# Altium integrated library HARTING DIN 41612 Type C.IntLib: 90 symbols (part 1 of 3)
Pins are listed as number, name and electrical type; pins without a type are passive.

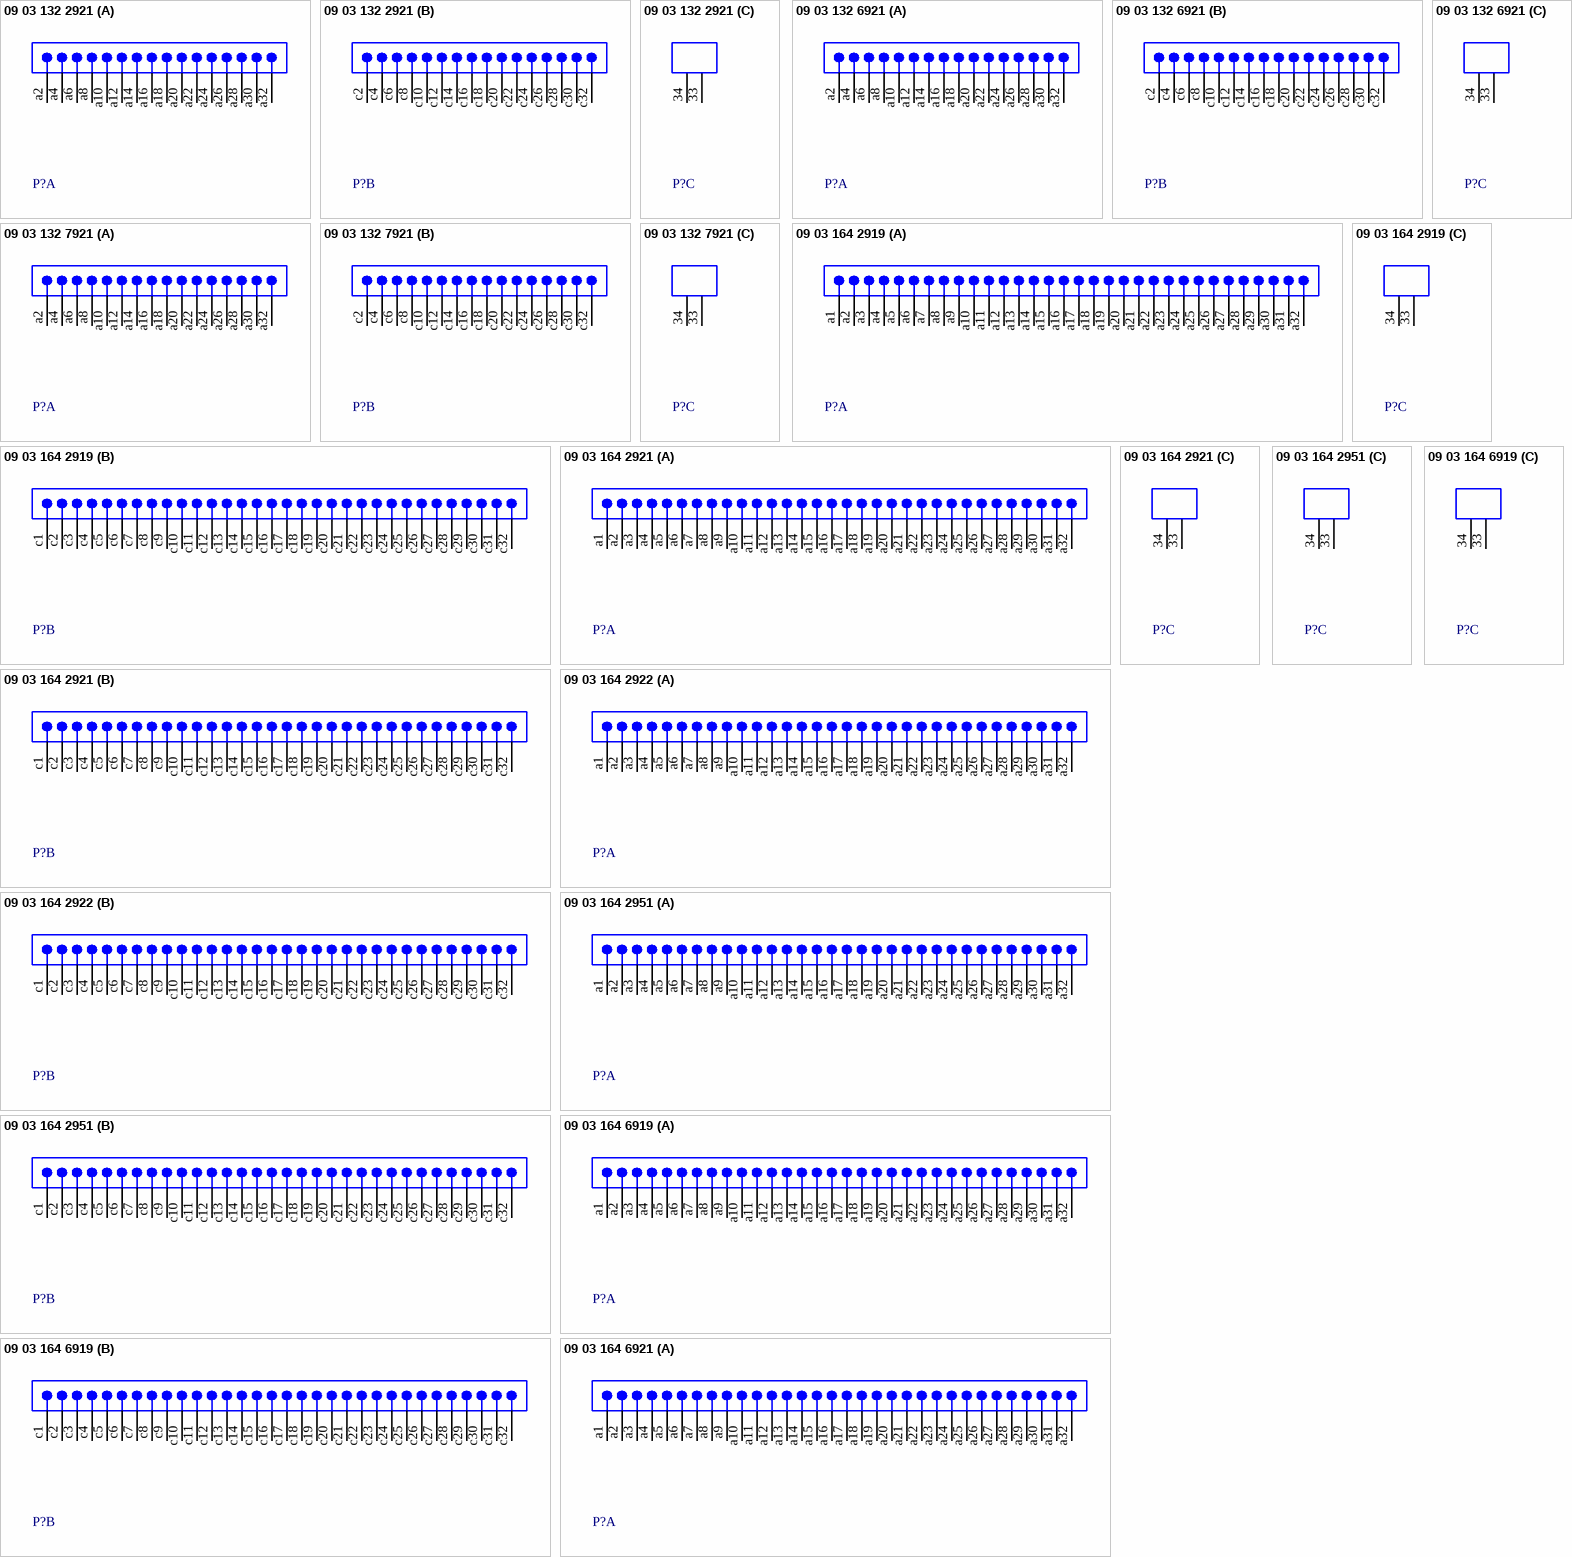
[diagram p0: symbols 09 03 132 2921 to 09 03 164 6921]

## 09 03 132 2921
designator P?
Eurocard DIN 41612, Type C, 32 Position, Rows a+c, Performance level 1, Male, Lead 3.0 mm, Pitch 2.54 mm; DrillSize: Corresponds to nominal value.; Published: 6-Oct-2005; DatasheetDocument: 02-Jun-2003; PackageDocument: 23-May-2000; PackageReference: 0903132x921; Publisher: Altium Limited; ComponentLink1Description: Manufacturer Link; ComponentLink1URL: http://www.harting.com/; ComponentLink2Description: Packaging Specification; ComponentLink2URL: http://www.harkis.harting.com/_gds/pdf/TB_0903132x921_BL01_R27461.pdf
footprint 0903132x921 (Connector; DIN 41612, Type C, Thru-Hole; Rows a+c, 32 Position; Right Angle)
signal-integrity model DIN 41612
part A pins: a2, a4, a6, a8, a10, a12, a14, a16, a18, a20, a22, a24, a26, a28, a30, a32
part B pins: c2, c4, c6, c8, c10, c12, c14, c16, c18, c20, c22, c24, c26, c28, c30, c32
part C pins: 33 MH1 "Mounting Fixture", 34 MH2 "Mounting Fixture"

## 09 03 132 6921
designator P?
Eurocard DIN 41612, Type C, 32 Position, Rows a+c, Performance level 2, Male, Lead 3.0 mm, Pitch 2.54 mm; DrillSize: Corresponds to nominal value.; Published: 6-Oct-2005; DatasheetDocument: 02-Jun-2003; PackageDocument: 23-May-2000; PackageReference: 0903132x921; Publisher: Altium Limited; ComponentLink1Description: Manufacturer Link; ComponentLink1URL: http://www.harting.com/; ComponentLink2Description: Packaging Specification; ComponentLink2URL: http://www.harkis.harting.com/_gds/pdf/TB_0903132x921_BL01_R27461.pdf
footprint 0903132x921 (Connector; DIN 41612, Type C, Thru-Hole; Rows a+c, 32 Position; Right Angle)
signal-integrity model DIN 41612
part A pins: a2, a4, a6, a8, a10, a12, a14, a16, a18, a20, a22, a24, a26, a28, a30, a32
part B pins: c2, c4, c6, c8, c10, c12, c14, c16, c18, c20, c22, c24, c26, c28, c30, c32
part C pins: 33 MH1 "Mounting Fixture", 34 MH2 "Mounting Fixture"

## 09 03 132 7921
designator P?
Eurocard DIN 41612, Type C, 32 Position, Rows a+c, Performance level 3, Male, Lead 3.0 mm, Pitch 2.54 mm; DrillSize: Corresponds to nominal value.; Published: 6-Oct-2005; DatasheetDocument: 02-Jun-2003; PackageDocument: 23-May-2000; PackageReference: 0903132x921; Publisher: Altium Limited; ComponentLink1Description: Manufacturer Link; ComponentLink1URL: http://www.harting.com/; ComponentLink2Description: Packaging Specification; ComponentLink2URL: http://www.harkis.harting.com/_gds/pdf/TB_0903132x921_BL01_R27461.pdf
footprint 0903132x921 (Connector; DIN 41612, Type C, Thru-Hole; Rows a+c, 32 Position; Right Angle)
signal-integrity model DIN 41612
part A pins: a2, a4, a6, a8, a10, a12, a14, a16, a18, a20, a22, a24, a26, a28, a30, a32
part B pins: c2, c4, c6, c8, c10, c12, c14, c16, c18, c20, c22, c24, c26, c28, c30, c32
part C pins: 33 MH1 "Mounting Fixture", 34 MH2 "Mounting Fixture"

## 09 03 164 2919
designator P?
Eurocard DIN 41612, Type C, 64 Position, Rows a+c, Performance level 1, Male, Lead 3.0 mm, Pitch 2.54 mm; DrillSize: Corresponds to nominal value.; Published: 6-Oct-2005; DatasheetDocument: 03-Jun-2003; PackageReference: 0903164x919; Publisher: Altium Limited; ComponentLink1Description: Manufacturer Link; ComponentLink1URL: http://www.harting.com/
footprint 0903164x919 (Connector; DIN 41612, Type C, Thru-Hole; Rows a+c, 64 Position; Right Angle)
signal-integrity model DIN 41612
part A pins: a1, a2, a3, a4, a5, a6, a7, a8, a9, a10, a11, a12, a13, a14, a15, a16, a17, a18, a19, a20, a21, a22, a23, a24, a25, a26, a27, a28, a29, a30, a31, a32
part B pins: c1, c2, c3, c4, c5, c6, c7, c8, c9, c10, c11, c12, c13, c14, c15, c16, c17, c18, c19, c20, c21, c22, c23, c24, c25, c26, c27, c28, c29, c30, c31, c32
part C pins: 33 MH1 "Mounting Fixture", 34 MH2 "Mounting Fixture"

## 09 03 164 2921
designator P?
Eurocard DIN 41612, Type C, 64 Position, Rows a+c, Performance level 1, Male, Lead 3.0 mm, Pitch 2.54 mm; DrillSize: Corresponds to nominal value.; Published: 6-Oct-2005; DatasheetDocument: 02-Jun-2003; PackageDocument: 15-May-2000; PackageReference: 0903164x921; Publisher: Altium Limited; ComponentLink1Description: Manufacturer Link; ComponentLink1URL: http://www.harting.com/; ComponentLink2Description: Packaging Specification; ComponentLink2URL: http://www.harkis.harting.com/_gds/pdf/TB_0903164x921_BL01_R27477.pdf
footprint 0903164x921 (Connector; DIN 41612, Type C, Thru-Hole; Rows a+c, 64 Position; Right Angle)
signal-integrity model DIN 41612
part A pins: a1, a2, a3, a4, a5, a6, a7, a8, a9, a10, a11, a12, a13, a14, a15, a16, a17, a18, a19, a20, a21, a22, a23, a24, a25, a26, a27, a28, a29, a30, a31, a32
part B pins: c1, c2, c3, c4, c5, c6, c7, c8, c9, c10, c11, c12, c13, c14, c15, c16, c17, c18, c19, c20, c21, c22, c23, c24, c25, c26, c27, c28, c29, c30, c31, c32
part C pins: 33 MH1 "Mounting Fixture", 34 MH2 "Mounting Fixture"

## 09 03 164 2922
designator P?
Eurocard DIN 41612, Type C, 64 Position, Rows a+c, Performance level 1, Male, Lead 3.0 mm, Pitch 2.54 mm; DrillSize: Corresponds to nominal value.; Published: 6-Oct-2005; DatasheetDocument: 02-Jun-2003; PackageDocument: 03-Jul-2000; PackageReference: 0903164x922; Publisher: Altium Limited; ComponentLink1Description: Manufacturer Link; ComponentLink1URL: http://www.harting.com/; ComponentLink2Description: Packaging Specification; ComponentLink2URL: http://www.harkis.harting.com/_gds/pdf/TB_0903164x922_BL01_R27486.pdf
footprint 0903164x922 (Connector; DIN 41612, Type C, Thru-Hole; Rows a+c, 64 Position; Vertical; No Mounting Fixture)
signal-integrity model DIN 41612
part A pins: a1, a2, a3, a4, a5, a6, a7, a8, a9, a10, a11, a12, a13, a14, a15, a16, a17, a18, a19, a20, a21, a22, a23, a24, a25, a26, a27, a28, a29, a30, a31, a32
part B pins: c1, c2, c3, c4, c5, c6, c7, c8, c9, c10, c11, c12, c13, c14, c15, c16, c17, c18, c19, c20, c21, c22, c23, c24, c25, c26, c27, c28, c29, c30, c31, c32

## 09 03 164 2951
designator P?
Eurocard DIN 41612, Type C, 62+2 Position, Rows a+c, Performance level 1, Male, Lead 3.0 mm, Pitch 2.54 mm; Note: Two leading contacts at positions a1 & a32.; DrillSize: Corresponds to nominal value.; Published: 6-Oct-2005; DatasheetDocument: 02-Jun-2003; PackageDocument: 18-May-2000; PackageReference: 0903164x951; Publisher: Altium Limited; ComponentLink1Description: Manufacturer Link; ComponentLink1URL: http://www.harting.com/; ComponentLink2Description: Packaging Specification; ComponentLink2URL: http://www.harkis.harting.com/_gds/pdf/TB_0903164x951_BL01_R27477.pdf
footprint 0903164x951 (Connector; DIN 41612, Type C, Thru-Hole; Rows a+c, 64 Position; Right Angle)
signal-integrity model DIN 41612
part A pins: a1, a2, a3, a4, a5, a6, a7, a8, a9, a10, a11, a12, a13, a14, a15, a16, a17, a18, a19, a20, a21, a22, a23, a24, a25, a26, a27, a28, a29, a30, a31, a32
part B pins: c1, c2, c3, c4, c5, c6, c7, c8, c9, c10, c11, c12, c13, c14, c15, c16, c17, c18, c19, c20, c21, c22, c23, c24, c25, c26, c27, c28, c29, c30, c31, c32
part C pins: 33 MH1 "Mounting Fixture", 34 MH2 "Mounting Fixture"

## 09 03 164 6919
designator P?
Eurocard DIN 41612, Type C, 64 Position, Rows a+c, Performance level 2, Male, Lead 3.0 mm, Pitch 2.54 mm; DrillSize: Corresponds to nominal value.; Published: 6-Oct-2005; DatasheetDocument: 03-Jun-2003; PackageReference: 0903164x919; Publisher: Altium Limited; ComponentLink1Description: Manufacturer Link; ComponentLink1URL: http://www.harting.com/
footprint 0903164x919 (Connector; DIN 41612, Type C, Thru-Hole; Rows a+c, 64 Position; Right Angle)
signal-integrity model DIN 41612
part A pins: a1, a2, a3, a4, a5, a6, a7, a8, a9, a10, a11, a12, a13, a14, a15, a16, a17, a18, a19, a20, a21, a22, a23, a24, a25, a26, a27, a28, a29, a30, a31, a32
part B pins: c1, c2, c3, c4, c5, c6, c7, c8, c9, c10, c11, c12, c13, c14, c15, c16, c17, c18, c19, c20, c21, c22, c23, c24, c25, c26, c27, c28, c29, c30, c31, c32
part C pins: 33 MH1 "Mounting Fixture", 34 MH2 "Mounting Fixture"

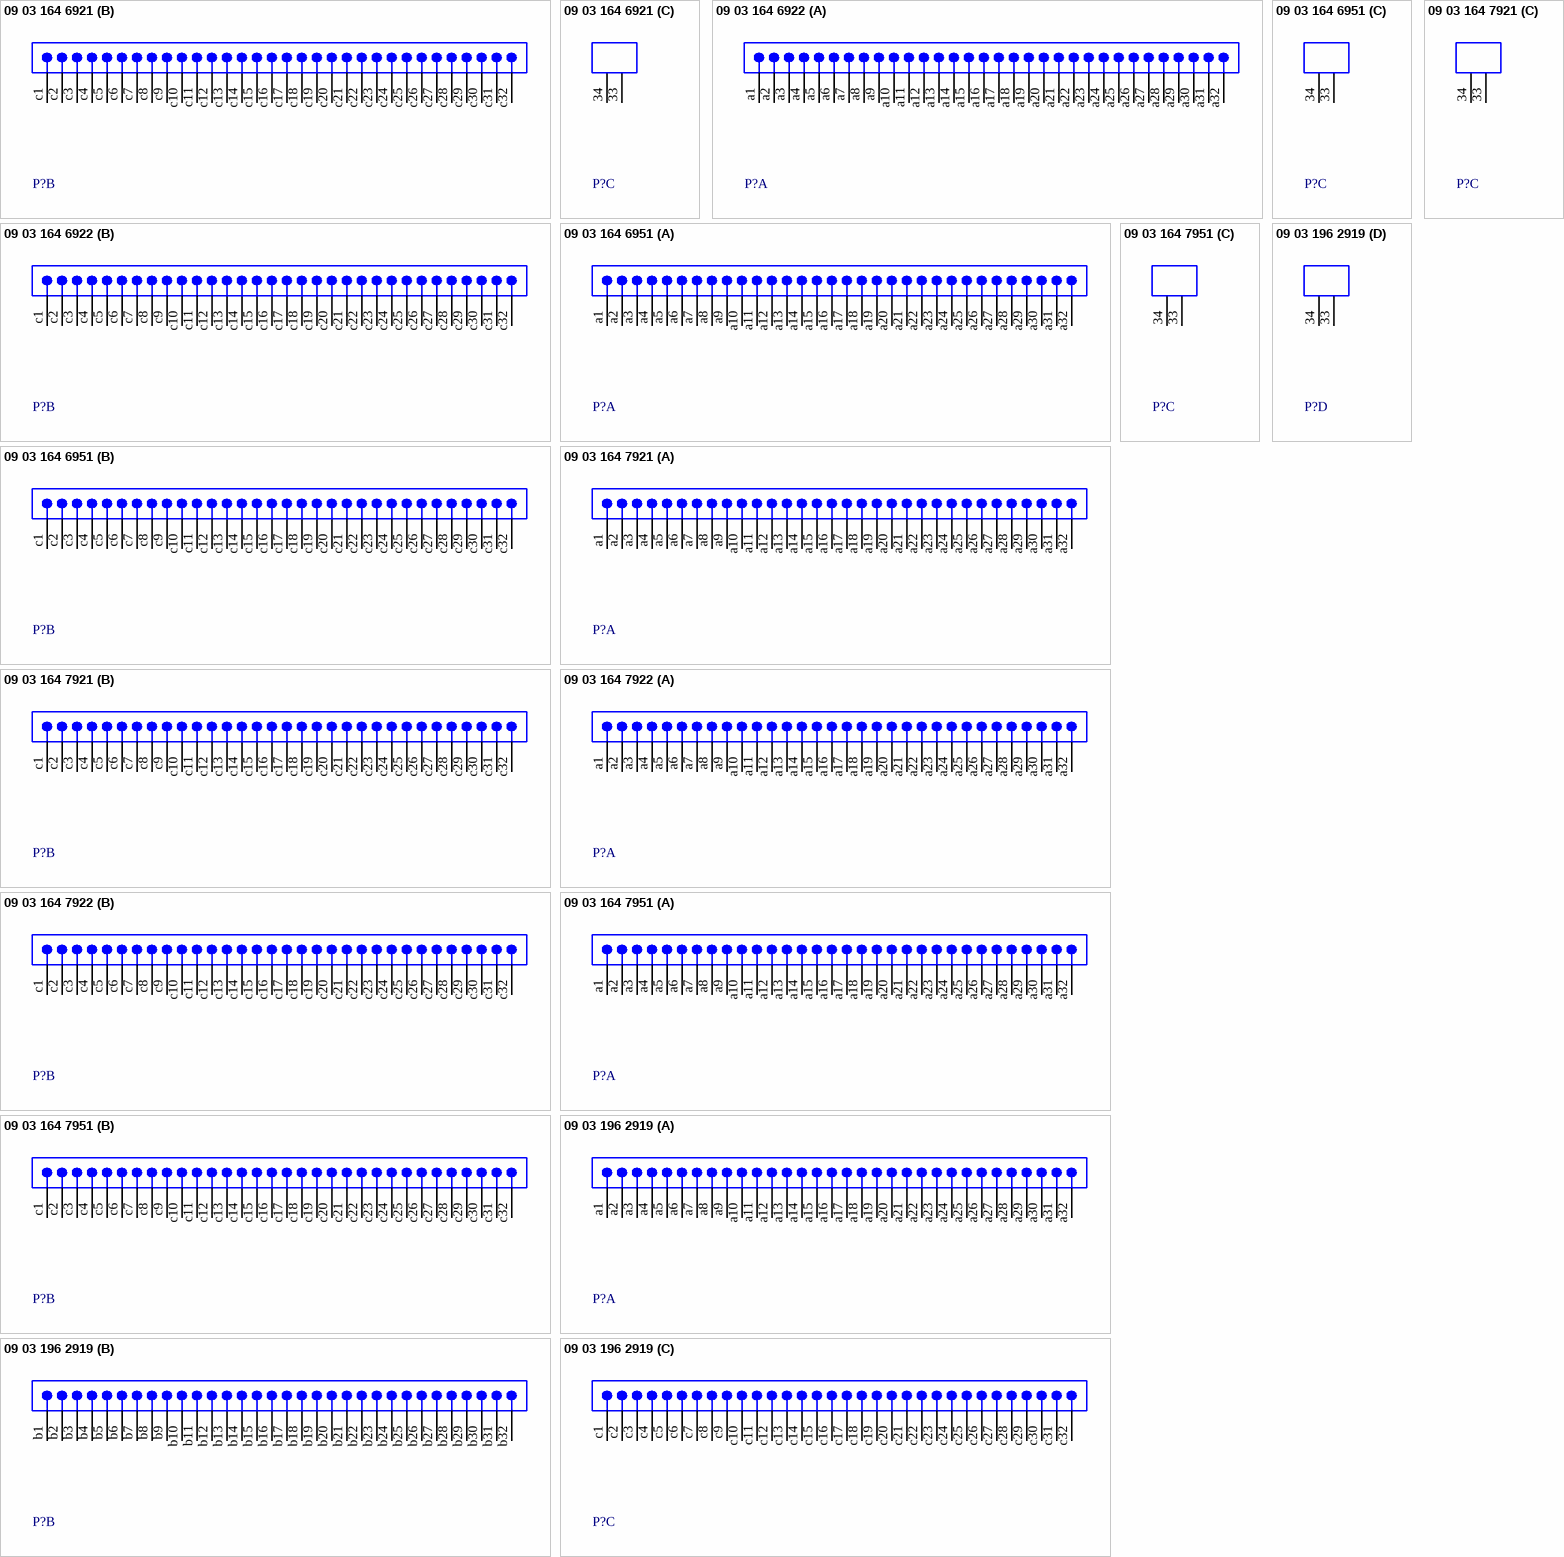
[diagram p1: symbols 09 03 164 6921 to 09 03 196 2919]

## 09 03 164 6921
designator P?
Eurocard DIN 41612, Type C, 64 Position, Rows a+c, Performance level 2, Male, Lead 3.0 mm, Pitch 2.54 mm; DrillSize: Corresponds to nominal value.; Published: 6-Oct-2005; DatasheetDocument: 02-Jun-2003; PackageDocument: 15-May-2000; PackageReference: 0903164x921; Publisher: Altium Limited; ComponentLink1Description: Manufacturer Link; ComponentLink1URL: http://www.harting.com/; ComponentLink2Description: Packaging Specification; ComponentLink2URL: http://www.harkis.harting.com/_gds/pdf/TB_0903164x921_BL01_R27477.pdf
footprint 0903164x921 (Connector; DIN 41612, Type C, Thru-Hole; Rows a+c, 64 Position; Right Angle)
signal-integrity model DIN 41612
part A pins: a1, a2, a3, a4, a5, a6, a7, a8, a9, a10, a11, a12, a13, a14, a15, a16, a17, a18, a19, a20, a21, a22, a23, a24, a25, a26, a27, a28, a29, a30, a31, a32
part B pins: c1, c2, c3, c4, c5, c6, c7, c8, c9, c10, c11, c12, c13, c14, c15, c16, c17, c18, c19, c20, c21, c22, c23, c24, c25, c26, c27, c28, c29, c30, c31, c32
part C pins: 33 MH1 "Mounting Fixture", 34 MH2 "Mounting Fixture"

## 09 03 164 6922
designator P?
Eurocard DIN 41612, Type C, 64 Position, Rows a+c, Performance level 2, Male, Lead 3.0 mm, Pitch 2.54 mm; DrillSize: Corresponds to nominal value.; Published: 6-Oct-2005; DatasheetDocument: 02-Jun-2003; PackageDocument: 03-Jul-2000; PackageReference: 0903164x922; Publisher: Altium Limited; ComponentLink1Description: Manufacturer Link; ComponentLink1URL: http://www.harting.com/; ComponentLink2Description: Packaging Specification; ComponentLink2URL: http://www.harkis.harting.com/_gds/pdf/TB_0903164x922_BL01_R27486.pdf
footprint 0903164x922 (Connector; DIN 41612, Type C, Thru-Hole; Rows a+c, 64 Position; Vertical; No Mounting Fixture)
signal-integrity model DIN 41612
part A pins: a1, a2, a3, a4, a5, a6, a7, a8, a9, a10, a11, a12, a13, a14, a15, a16, a17, a18, a19, a20, a21, a22, a23, a24, a25, a26, a27, a28, a29, a30, a31, a32
part B pins: c1, c2, c3, c4, c5, c6, c7, c8, c9, c10, c11, c12, c13, c14, c15, c16, c17, c18, c19, c20, c21, c22, c23, c24, c25, c26, c27, c28, c29, c30, c31, c32

## 09 03 164 6951
designator P?
Eurocard DIN 41612, Type C, 62+2 Position, Rows a+c, Performance level 2, Male, Lead 3.0 mm, Pitch 2.54 mm; Note: Two leading contacts at positions a1 & a32.; DrillSize: Corresponds to nominal value.; Published: 6-Oct-2005; DatasheetDocument: 02-Jun-2003; PackageDocument: 18-May-2000; PackageReference: 0903164x951; Publisher: Altium Limited; ComponentLink1Description: Manufacturer Link; ComponentLink1URL: http://www.harting.com/; ComponentLink2Description: Packaging Specification; ComponentLink2URL: http://www.harkis.harting.com/_gds/pdf/TB_0903164x951_BL01_R27477.pdf
footprint 0903164x951 (Connector; DIN 41612, Type C, Thru-Hole; Rows a+c, 64 Position; Right Angle)
signal-integrity model DIN 41612
part A pins: a1, a2, a3, a4, a5, a6, a7, a8, a9, a10, a11, a12, a13, a14, a15, a16, a17, a18, a19, a20, a21, a22, a23, a24, a25, a26, a27, a28, a29, a30, a31, a32
part B pins: c1, c2, c3, c4, c5, c6, c7, c8, c9, c10, c11, c12, c13, c14, c15, c16, c17, c18, c19, c20, c21, c22, c23, c24, c25, c26, c27, c28, c29, c30, c31, c32
part C pins: 33 MH1 "Mounting Fixture", 34 MH2 "Mounting Fixture"

## 09 03 164 7921
designator P?
Eurocard DIN 41612, Type C, 64 Position, Rows a+c, Performance level 3, Male, Lead 3.0 mm, Pitch 2.54 mm; DrillSize: Corresponds to nominal value.; Published: 6-Oct-2005; DatasheetDocument: 02-Jun-2003; PackageDocument: 15-May-2000; PackageReference: 0903164x921; Publisher: Altium Limited; ComponentLink1Description: Manufacturer Link; ComponentLink1URL: http://www.harting.com/; ComponentLink2Description: Packaging Specification; ComponentLink2URL: http://www.harkis.harting.com/_gds/pdf/TB_0903164x921_BL01_R27477.pdf
footprint 0903164x921 (Connector; DIN 41612, Type C, Thru-Hole; Rows a+c, 64 Position; Right Angle)
signal-integrity model DIN 41612
part A pins: a1, a2, a3, a4, a5, a6, a7, a8, a9, a10, a11, a12, a13, a14, a15, a16, a17, a18, a19, a20, a21, a22, a23, a24, a25, a26, a27, a28, a29, a30, a31, a32
part B pins: c1, c2, c3, c4, c5, c6, c7, c8, c9, c10, c11, c12, c13, c14, c15, c16, c17, c18, c19, c20, c21, c22, c23, c24, c25, c26, c27, c28, c29, c30, c31, c32
part C pins: 33 MH1 "Mounting Fixture", 34 MH2 "Mounting Fixture"

## 09 03 164 7922
designator P?
Eurocard DIN 41612, Type C, 64 Position, Rows a+c, Performance level 3, Male, Lead 3.0 mm, Pitch 2.54 mm; DrillSize: Corresponds to nominal value.; Published: 6-Oct-2005; DatasheetDocument: 02-Jun-2003; PackageDocument: 03-Jul-2000; PackageReference: 0903164x922; Publisher: Altium Limited; ComponentLink1Description: Manufacturer Link; ComponentLink1URL: http://www.harting.com/; ComponentLink2Description: Packaging Specification; ComponentLink2URL: http://www.harkis.harting.com/_gds/pdf/TB_0903164x922_BL01_R27486.pdf
footprint 0903164x922 (Connector; DIN 41612, Type C, Thru-Hole; Rows a+c, 64 Position; Vertical; No Mounting Fixture)
signal-integrity model DIN 41612
part A pins: a1, a2, a3, a4, a5, a6, a7, a8, a9, a10, a11, a12, a13, a14, a15, a16, a17, a18, a19, a20, a21, a22, a23, a24, a25, a26, a27, a28, a29, a30, a31, a32
part B pins: c1, c2, c3, c4, c5, c6, c7, c8, c9, c10, c11, c12, c13, c14, c15, c16, c17, c18, c19, c20, c21, c22, c23, c24, c25, c26, c27, c28, c29, c30, c31, c32

## 09 03 164 7951
designator P?
Eurocard DIN 41612, Type C, 62+2 Position, Rows a+c, Performance level 3, Male, Lead 3.0 mm, Pitch 2.54 mm; Note: Two leading contacts at positions a1 & a32.; DrillSize: Corresponds to nominal value.; Published: 6-Oct-2005; DatasheetDocument: 02-Jun-2003; PackageDocument: 18-May-2000; PackageReference: 0903164x951; Publisher: Altium Limited; ComponentLink1Description: Manufacturer Link; ComponentLink1URL: http://www.harting.com/; ComponentLink2Description: Packaging Specification; ComponentLink2URL: http://www.harkis.harting.com/_gds/pdf/TB_0903164x951_BL01_R27477.pdf
footprint 0903164x951 (Connector; DIN 41612, Type C, Thru-Hole; Rows a+c, 64 Position; Right Angle)
signal-integrity model DIN 41612
part A pins: a1, a2, a3, a4, a5, a6, a7, a8, a9, a10, a11, a12, a13, a14, a15, a16, a17, a18, a19, a20, a21, a22, a23, a24, a25, a26, a27, a28, a29, a30, a31, a32
part B pins: c1, c2, c3, c4, c5, c6, c7, c8, c9, c10, c11, c12, c13, c14, c15, c16, c17, c18, c19, c20, c21, c22, c23, c24, c25, c26, c27, c28, c29, c30, c31, c32
part C pins: 33 MH1 "Mounting Fixture", 34 MH2 "Mounting Fixture"

## 09 03 196 2919
designator P?
Eurocard DIN 41612, Type C, 96 Position, Rows a+b+c, Performance level 1, Male, Lead 3.0 mm, Pitch 2.54 mm; DrillSize: Corresponds to nominal value.; Published: 6-Oct-2005; DatasheetDocument: 03-Jun-2003; PackageDocument: 24-Jan-2002; PackageReference: 0903196x919; Publisher: Altium Limited; ComponentLink1Description: Manufacturer Link; ComponentLink1URL: http://www.harting.com/; ComponentLink2Description: Packaging Specification; ComponentLink2URL: http://www.harkis.harting.com/_gds/pdf/TB_0903196x919_BL01_R30797.pdf
footprint 0903196x919 (Connector; DIN 41612, Type C, Thru-Hole; Rows a+b+c, 96 Position; Right Angle)
signal-integrity model DIN 41612
part A pins: a1, a2, a3, a4, a5, a6, a7, a8, a9, a10, a11, a12, a13, a14, a15, a16, a17, a18, a19, a20, a21, a22, a23, a24, a25, a26, a27, a28, a29, a30, a31, a32
part B pins: b1, b2, b3, b4, b5, b6, b7, b8, b9, b10, b11, b12, b13, b14, b15, b16, b17, b18, b19, b20, b21, b22, b23, b24, b25, b26, b27, b28, b29, b30, b31, b32
part C pins: c1, c2, c3, c4, c5, c6, c7, c8, c9, c10, c11, c12, c13, c14, c15, c16, c17, c18, c19, c20, c21, c22, c23, c24, c25, c26, c27, c28, c29, c30, c31, c32
part D pins: 33 MH1 "Mounting Fixture", 34 MH2 "Mounting Fixture"

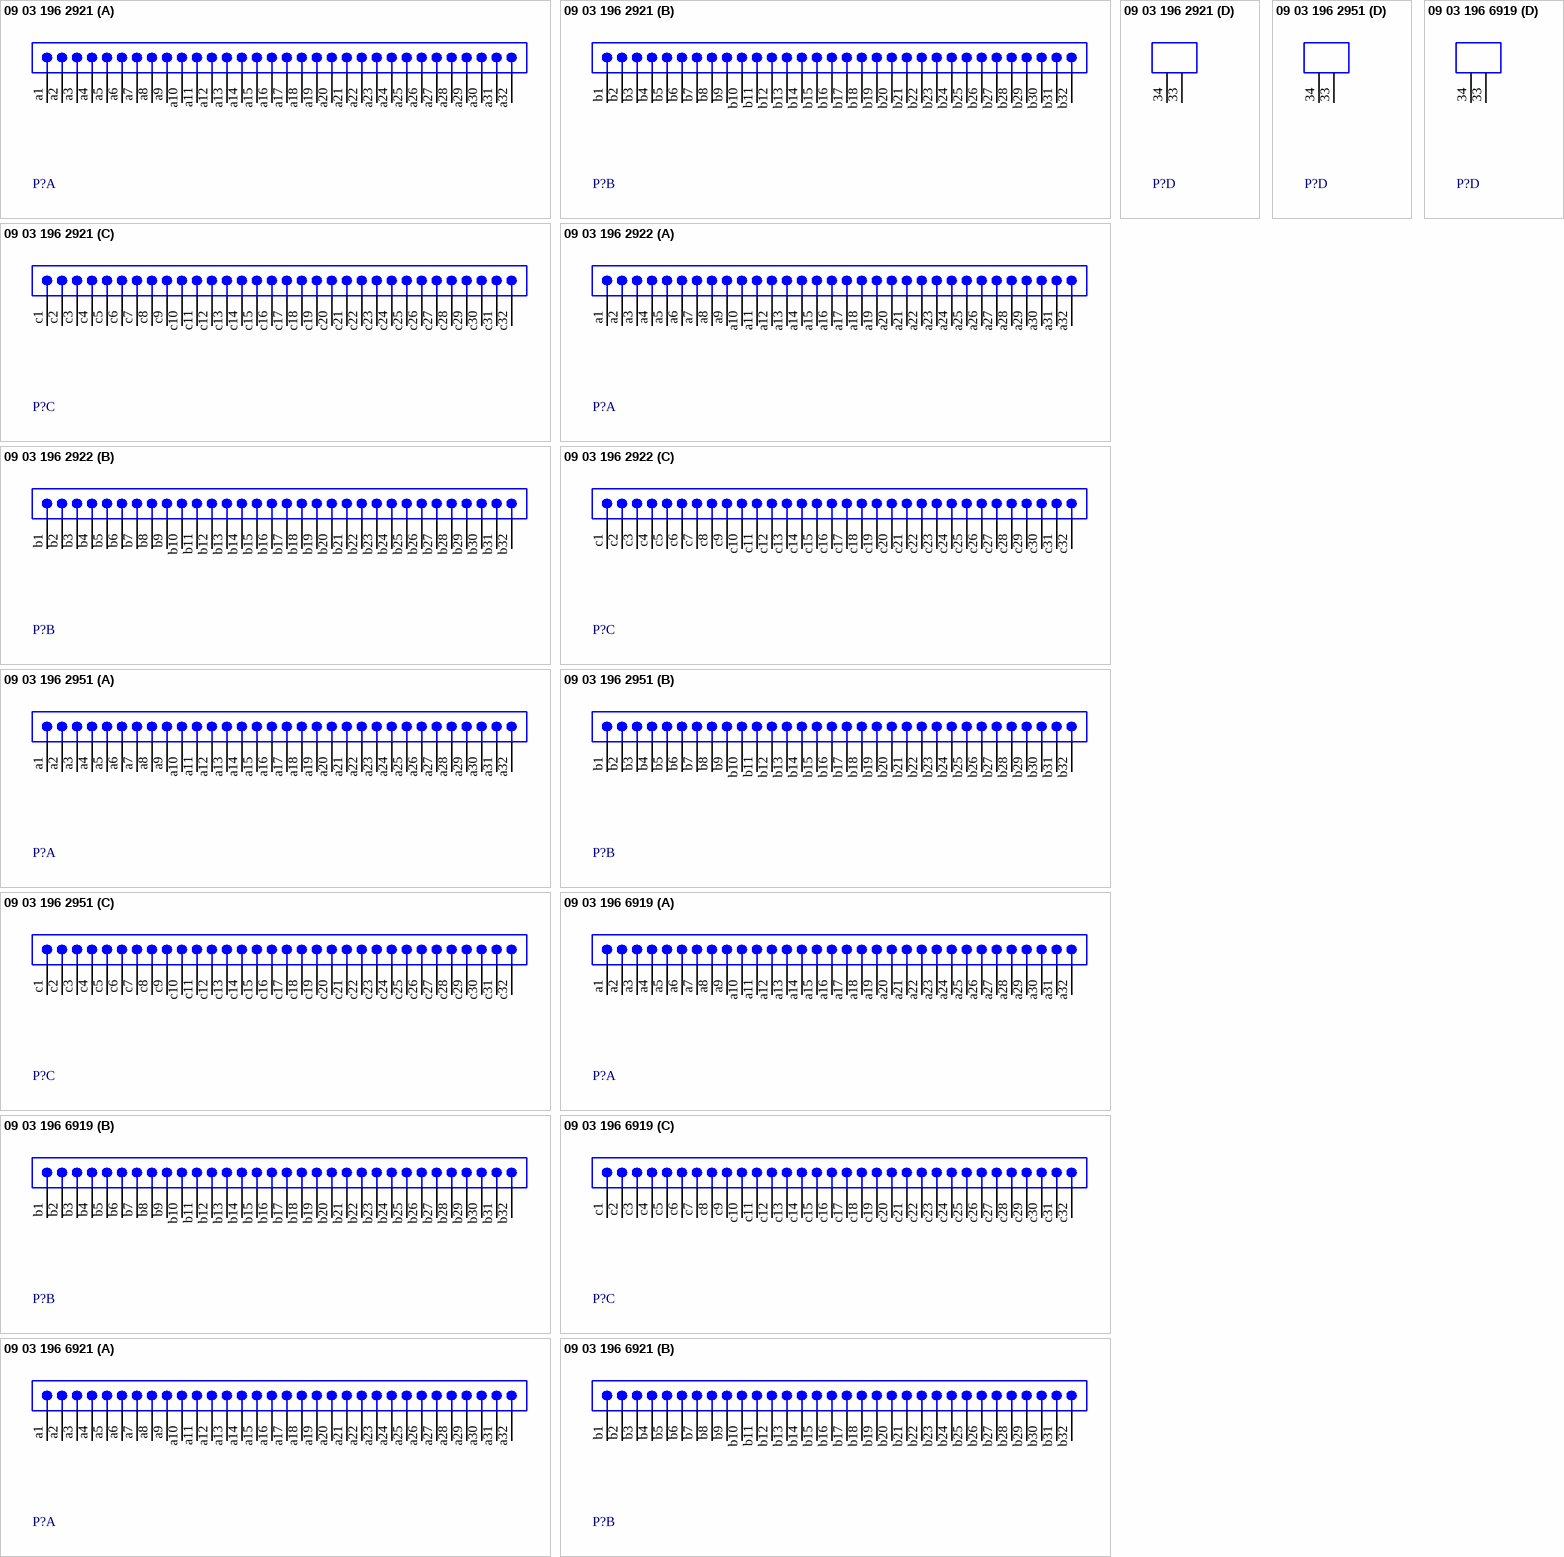
[diagram p2: symbols 09 03 196 2921 to 09 03 196 6921]

## 09 03 196 2921
designator P?
Eurocard DIN 41612, Type C, 96 Position, Rows a+b+c, Performance level 1, Male, Lead 3.0 mm, Pitch 2.54 mm; DrillSize: Corresponds to nominal value.; Published: 6-Oct-2005; DatasheetDocument: 02-Jun-2003; PackageDocument: 05-May-2000; PackageReference: 0903196x921; Publisher: Altium Limited; ComponentLink1Description: Manufacturer Link; ComponentLink1URL: http://www.harting.com/; ComponentLink2Description: Packaging Specification; ComponentLink2URL: http://www.harkis.harting.com/_gds/pdf/TB_0903196x921_BL01_R27479.pdf
footprint 0903196x921 (Connector; DIN 41612, Type C, Thru-Hole; Rows a+b+c, 96 Position; Right Angle)
signal-integrity model DIN 41612
part A pins: a1, a2, a3, a4, a5, a6, a7, a8, a9, a10, a11, a12, a13, a14, a15, a16, a17, a18, a19, a20, a21, a22, a23, a24, a25, a26, a27, a28, a29, a30, a31, a32
part B pins: b1, b2, b3, b4, b5, b6, b7, b8, b9, b10, b11, b12, b13, b14, b15, b16, b17, b18, b19, b20, b21, b22, b23, b24, b25, b26, b27, b28, b29, b30, b31, b32
part C pins: c1, c2, c3, c4, c5, c6, c7, c8, c9, c10, c11, c12, c13, c14, c15, c16, c17, c18, c19, c20, c21, c22, c23, c24, c25, c26, c27, c28, c29, c30, c31, c32
part D pins: 33 MH1 "Mounting Fixture", 34 MH2 "Mounting Fixture"

## 09 03 196 2922
designator P?
Eurocard DIN 41612, Type C, 96 Position, Rows a+b+c, Performance level 1, Male, Lead 3.0 mm, Pitch 2.54 mm; DrillSize: Corresponds to nominal value.; Published: 6-Oct-2005; DatasheetDocument: 02-Jun-2003; PackageDocument: 03-Jul-2000; PackageReference: 0903196x922; Publisher: Altium Limited; ComponentLink1Description: Manufacturer Link; ComponentLink1URL: http://www.harting.com/; ComponentLink2Description: Packaging Specification; ComponentLink2URL: http://www.harkis.harting.com/_gds/pdf/TB_0903196x922_BL01_R27486.pdf
footprint 0903196x922 (Connector; DIN 41612, Type C, Thru-Hole; Rows a+b+c, 96 Position; Vertical; No Mounting Fixture)
signal-integrity model DIN 41612
part A pins: a1, a2, a3, a4, a5, a6, a7, a8, a9, a10, a11, a12, a13, a14, a15, a16, a17, a18, a19, a20, a21, a22, a23, a24, a25, a26, a27, a28, a29, a30, a31, a32
part B pins: b1, b2, b3, b4, b5, b6, b7, b8, b9, b10, b11, b12, b13, b14, b15, b16, b17, b18, b19, b20, b21, b22, b23, b24, b25, b26, b27, b28, b29, b30, b31, b32
part C pins: c1, c2, c3, c4, c5, c6, c7, c8, c9, c10, c11, c12, c13, c14, c15, c16, c17, c18, c19, c20, c21, c22, c23, c24, c25, c26, c27, c28, c29, c30, c31, c32

## 09 03 196 2951
designator P?
Eurocard DIN 41612, Type C, 94+2 Position, Rows a+b+c, Performance level 1, Male, Lead 3.0 mm, Pitch 2.54 mm; Note: Two leading contacts at positions a1 & a32.; DrillSize: Corresponds to nominal value.; Published: 6-Oct-2005; DatasheetDocument: 02-Jun-2003; PackageDocument: 15-Jun-2000; PackageReference: 0903196x951; Publisher: Altium Limited; ComponentLink1Description: Manufacturer Link; ComponentLink1URL: http://www.harting.com/; ComponentLink2Description: Packaging Specification; ComponentLink2URL: http://www.harkis.harting.com/_gds/pdf/TB_0903196x951_BL01_R27480.pdf
footprint 0903196x951 (Connector; DIN 41612, Type C, Thru-Hole; Rows a+b+c, 96 Position; Right Angle)
signal-integrity model DIN 41612
part A pins: a1, a2, a3, a4, a5, a6, a7, a8, a9, a10, a11, a12, a13, a14, a15, a16, a17, a18, a19, a20, a21, a22, a23, a24, a25, a26, a27, a28, a29, a30, a31, a32
part B pins: b1, b2, b3, b4, b5, b6, b7, b8, b9, b10, b11, b12, b13, b14, b15, b16, b17, b18, b19, b20, b21, b22, b23, b24, b25, b26, b27, b28, b29, b30, b31, b32
part C pins: c1, c2, c3, c4, c5, c6, c7, c8, c9, c10, c11, c12, c13, c14, c15, c16, c17, c18, c19, c20, c21, c22, c23, c24, c25, c26, c27, c28, c29, c30, c31, c32
part D pins: 33 MH1 "Mounting Fixture", 34 MH2 "Mounting Fixture"

## 09 03 196 6919
designator P?
Eurocard DIN 41612, Type C, 96 Position, Rows a+b+c, Performance level 2, Male, Lead 3.0 mm, Pitch 2.54 mm; DrillSize: Corresponds to nominal value.; Published: 6-Oct-2005; DatasheetDocument: 03-Jun-2003; PackageDocument: 24-Jan-2002; PackageReference: 0903196x919; Publisher: Altium Limited; ComponentLink1Description: Manufacturer Link; ComponentLink1URL: http://www.harting.com/; ComponentLink2Description: Packaging Specification; ComponentLink2URL: http://www.harkis.harting.com/_gds/pdf/TB_0903196x919_BL01_R30797.pdf
footprint 0903196x919 (Connector; DIN 41612, Type C, Thru-Hole; Rows a+b+c, 96 Position; Right Angle)
signal-integrity model DIN 41612
part A pins: a1, a2, a3, a4, a5, a6, a7, a8, a9, a10, a11, a12, a13, a14, a15, a16, a17, a18, a19, a20, a21, a22, a23, a24, a25, a26, a27, a28, a29, a30, a31, a32
part B pins: b1, b2, b3, b4, b5, b6, b7, b8, b9, b10, b11, b12, b13, b14, b15, b16, b17, b18, b19, b20, b21, b22, b23, b24, b25, b26, b27, b28, b29, b30, b31, b32
part C pins: c1, c2, c3, c4, c5, c6, c7, c8, c9, c10, c11, c12, c13, c14, c15, c16, c17, c18, c19, c20, c21, c22, c23, c24, c25, c26, c27, c28, c29, c30, c31, c32
part D pins: 33 MH1 "Mounting Fixture", 34 MH2 "Mounting Fixture"

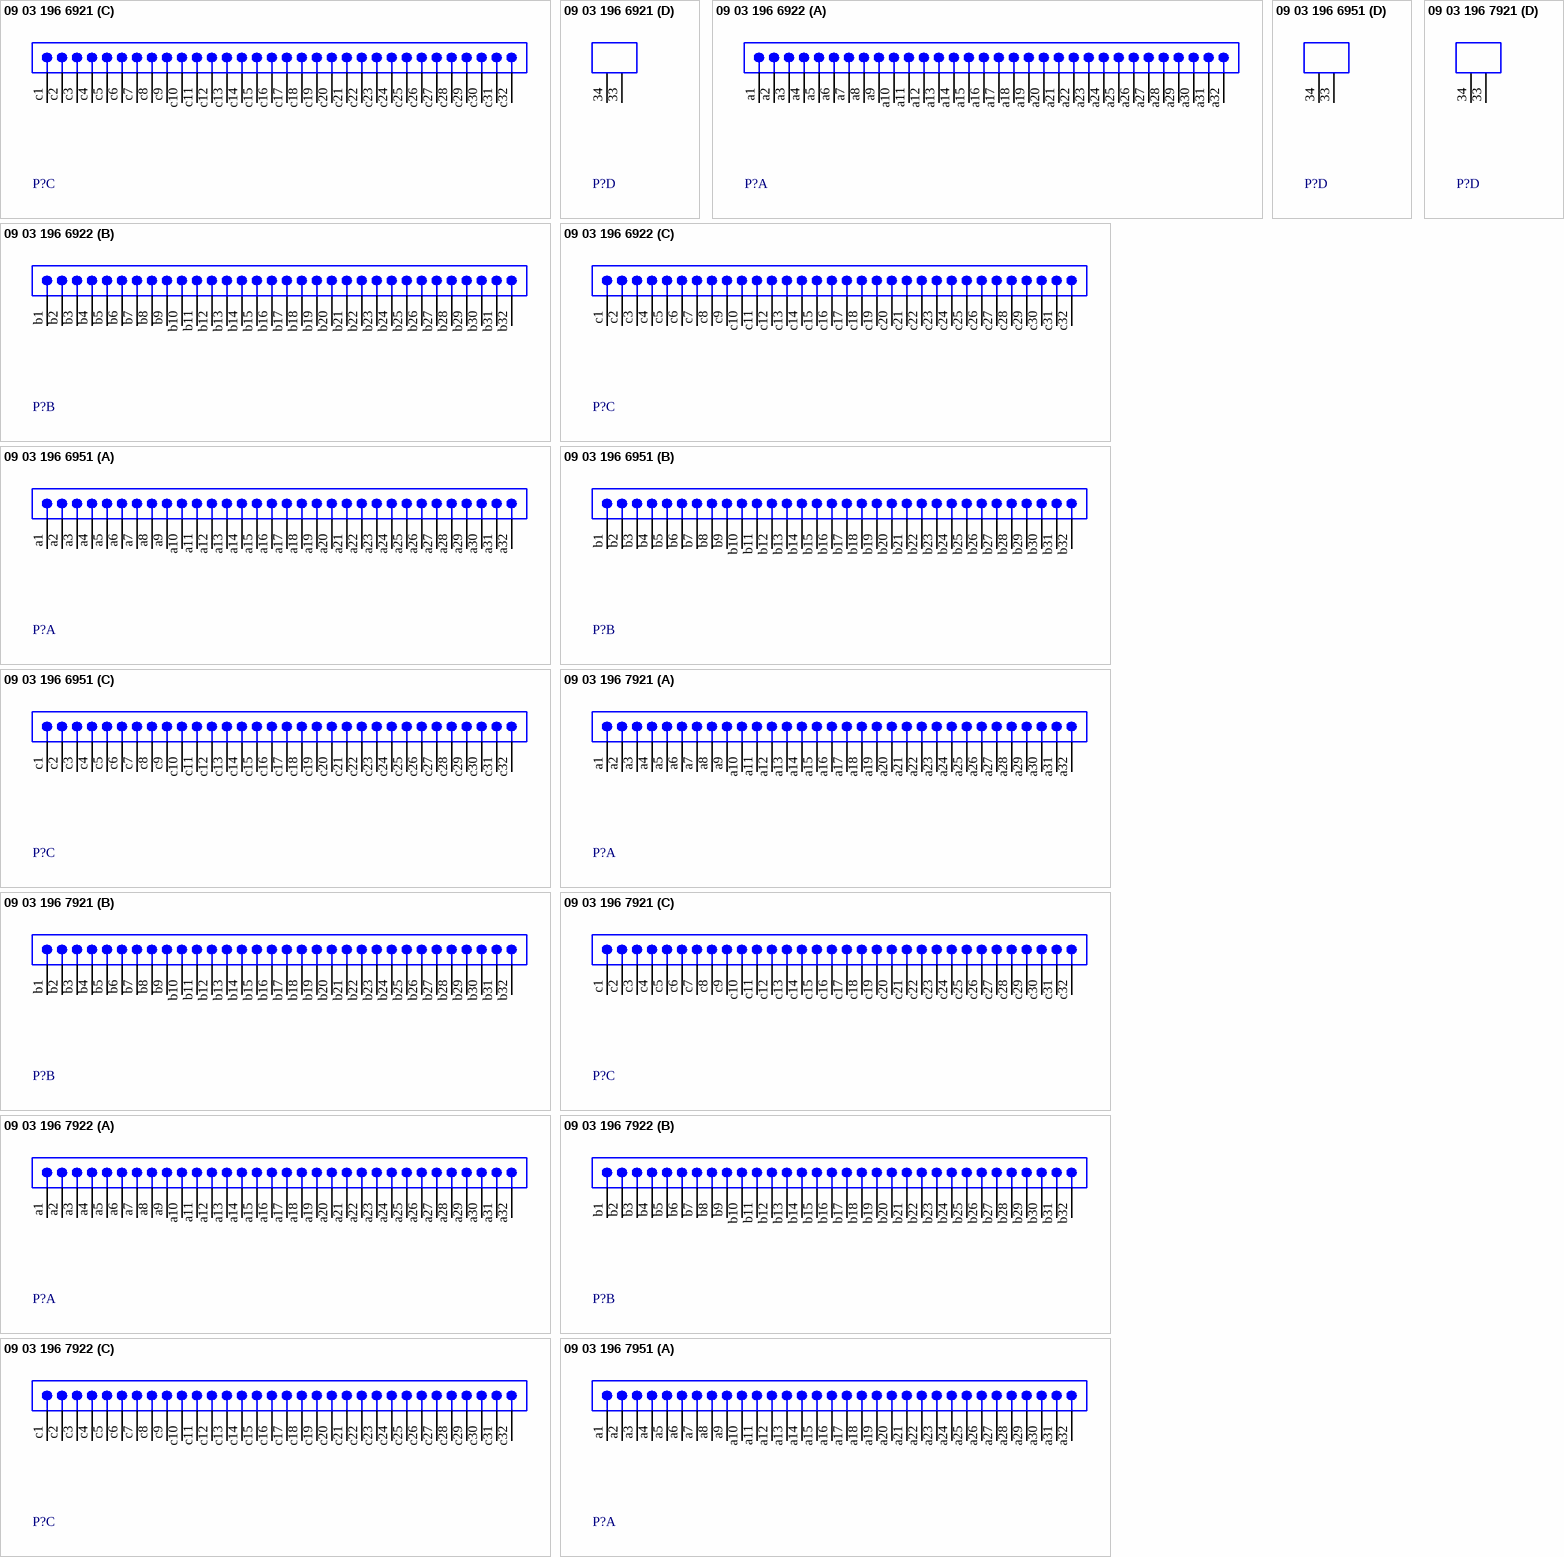
[diagram p3: symbols 09 03 196 6921 to 09 03 196 7951]

## 09 03 196 6921
designator P?
Eurocard DIN 41612, Type C, 96 Position, Rows a+b+c, Performance level 2, Male, Lead 3.0 mm, Pitch 2.54 mm; DrillSize: Corresponds to nominal value.; Published: 6-Oct-2005; DatasheetDocument: 02-Jun-2003; PackageDocument: 05-May-2000; PackageReference: 0903196x921; Publisher: Altium Limited; ComponentLink1Description: Manufacturer Link; ComponentLink1URL: http://www.harting.com/; ComponentLink2Description: Packaging Specification; ComponentLink2URL: http://www.harkis.harting.com/_gds/pdf/TB_0903196x921_BL01_R27479.pdf
footprint 0903196x921 (Connector; DIN 41612, Type C, Thru-Hole; Rows a+b+c, 96 Position; Right Angle)
signal-integrity model DIN 41612
part A pins: a1, a2, a3, a4, a5, a6, a7, a8, a9, a10, a11, a12, a13, a14, a15, a16, a17, a18, a19, a20, a21, a22, a23, a24, a25, a26, a27, a28, a29, a30, a31, a32
part B pins: b1, b2, b3, b4, b5, b6, b7, b8, b9, b10, b11, b12, b13, b14, b15, b16, b17, b18, b19, b20, b21, b22, b23, b24, b25, b26, b27, b28, b29, b30, b31, b32
part C pins: c1, c2, c3, c4, c5, c6, c7, c8, c9, c10, c11, c12, c13, c14, c15, c16, c17, c18, c19, c20, c21, c22, c23, c24, c25, c26, c27, c28, c29, c30, c31, c32
part D pins: 33 MH1 "Mounting Fixture", 34 MH2 "Mounting Fixture"

## 09 03 196 6922
designator P?
Eurocard DIN 41612, Type C, 96 Position, Rows a+b+c, Performance level 2, Male, Lead 3.0 mm, Pitch 2.54 mm; DrillSize: Corresponds to nominal value.; Published: 6-Oct-2005; DatasheetDocument: 02-Jun-2003; PackageDocument: 03-Jul-2000; PackageReference: 0903196x922; Publisher: Altium Limited; ComponentLink1Description: Manufacturer Link; ComponentLink1URL: http://www.harting.com/; ComponentLink2Description: Packaging Specification; ComponentLink2URL: http://www.harkis.harting.com/_gds/pdf/TB_0903196x922_BL01_R27486.pdf
footprint 0903196x922 (Connector; DIN 41612, Type C, Thru-Hole; Rows a+b+c, 96 Position; Vertical; No Mounting Fixture)
signal-integrity model DIN 41612
part A pins: a1, a2, a3, a4, a5, a6, a7, a8, a9, a10, a11, a12, a13, a14, a15, a16, a17, a18, a19, a20, a21, a22, a23, a24, a25, a26, a27, a28, a29, a30, a31, a32
part B pins: b1, b2, b3, b4, b5, b6, b7, b8, b9, b10, b11, b12, b13, b14, b15, b16, b17, b18, b19, b20, b21, b22, b23, b24, b25, b26, b27, b28, b29, b30, b31, b32
part C pins: c1, c2, c3, c4, c5, c6, c7, c8, c9, c10, c11, c12, c13, c14, c15, c16, c17, c18, c19, c20, c21, c22, c23, c24, c25, c26, c27, c28, c29, c30, c31, c32

## 09 03 196 6951
designator P?
Eurocard DIN 41612, Type C, 94+2 Position, Rows a+b+c, Performance level 2, Male, Lead 3.0 mm, Pitch 2.54 mm; Note: Two leading contacts at positions a1 & a32.; DrillSize: Corresponds to nominal value.; Published: 6-Oct-2005; DatasheetDocument: 02-Jun-2003; PackageDocument: 15-Jun-2000; PackageReference: 0903196x951; Publisher: Altium Limited; ComponentLink1Description: Manufacturer Link; ComponentLink1URL: http://www.harting.com/; ComponentLink2Description: Packaging Specification; ComponentLink2URL: http://www.harkis.harting.com/_gds/pdf/TB_0903196x951_BL01_R27480.pdf
footprint 0903196x951 (Connector; DIN 41612, Type C, Thru-Hole; Rows a+b+c, 96 Position; Right Angle)
signal-integrity model DIN 41612
part A pins: a1, a2, a3, a4, a5, a6, a7, a8, a9, a10, a11, a12, a13, a14, a15, a16, a17, a18, a19, a20, a21, a22, a23, a24, a25, a26, a27, a28, a29, a30, a31, a32
part B pins: b1, b2, b3, b4, b5, b6, b7, b8, b9, b10, b11, b12, b13, b14, b15, b16, b17, b18, b19, b20, b21, b22, b23, b24, b25, b26, b27, b28, b29, b30, b31, b32
part C pins: c1, c2, c3, c4, c5, c6, c7, c8, c9, c10, c11, c12, c13, c14, c15, c16, c17, c18, c19, c20, c21, c22, c23, c24, c25, c26, c27, c28, c29, c30, c31, c32
part D pins: 33 MH1 "Mounting Fixture", 34 MH2 "Mounting Fixture"

## 09 03 196 7921
designator P?
Eurocard DIN 41612, Type C, 96 Position, Rows a+b+c, Performance level 3, Male, Lead 3.0 mm, Pitch 2.54 mm; DrillSize: Corresponds to nominal value.; Published: 6-Oct-2005; DatasheetDocument: 02-Jun-2003; PackageDocument: 05-May-2000; PackageReference: 0903196x921; Publisher: Altium Limited; ComponentLink1Description: Manufacturer Link; ComponentLink1URL: http://www.harting.com/; ComponentLink2Description: Packaging Specification; ComponentLink2URL: http://www.harkis.harting.com/_gds/pdf/TB_0903196x921_BL01_R27479.pdf
footprint 0903196x921 (Connector; DIN 41612, Type C, Thru-Hole; Rows a+b+c, 96 Position; Right Angle)
signal-integrity model DIN 41612
part A pins: a1, a2, a3, a4, a5, a6, a7, a8, a9, a10, a11, a12, a13, a14, a15, a16, a17, a18, a19, a20, a21, a22, a23, a24, a25, a26, a27, a28, a29, a30, a31, a32
part B pins: b1, b2, b3, b4, b5, b6, b7, b8, b9, b10, b11, b12, b13, b14, b15, b16, b17, b18, b19, b20, b21, b22, b23, b24, b25, b26, b27, b28, b29, b30, b31, b32
part C pins: c1, c2, c3, c4, c5, c6, c7, c8, c9, c10, c11, c12, c13, c14, c15, c16, c17, c18, c19, c20, c21, c22, c23, c24, c25, c26, c27, c28, c29, c30, c31, c32
part D pins: 33 MH1 "Mounting Fixture", 34 MH2 "Mounting Fixture"

## 09 03 196 7922
designator P?
Eurocard DIN 41612, Type C, 96 Position, Rows a+b+c, Performance level 3, Male, Lead 3.0 mm, Pitch 2.54 mm; DrillSize: Corresponds to nominal value.; Published: 6-Oct-2005; DatasheetDocument: 02-Jun-2003; PackageDocument: 03-Jul-2000; PackageReference: 0903196x922; Publisher: Altium Limited; ComponentLink1Description: Manufacturer Link; ComponentLink1URL: http://www.harting.com/; ComponentLink2Description: Packaging Specification; ComponentLink2URL: http://www.harkis.harting.com/_gds/pdf/TB_0903196x922_BL01_R27486.pdf
footprint 0903196x922 (Connector; DIN 41612, Type C, Thru-Hole; Rows a+b+c, 96 Position; Vertical; No Mounting Fixture)
signal-integrity model DIN 41612
part A pins: a1, a2, a3, a4, a5, a6, a7, a8, a9, a10, a11, a12, a13, a14, a15, a16, a17, a18, a19, a20, a21, a22, a23, a24, a25, a26, a27, a28, a29, a30, a31, a32
part B pins: b1, b2, b3, b4, b5, b6, b7, b8, b9, b10, b11, b12, b13, b14, b15, b16, b17, b18, b19, b20, b21, b22, b23, b24, b25, b26, b27, b28, b29, b30, b31, b32
part C pins: c1, c2, c3, c4, c5, c6, c7, c8, c9, c10, c11, c12, c13, c14, c15, c16, c17, c18, c19, c20, c21, c22, c23, c24, c25, c26, c27, c28, c29, c30, c31, c32

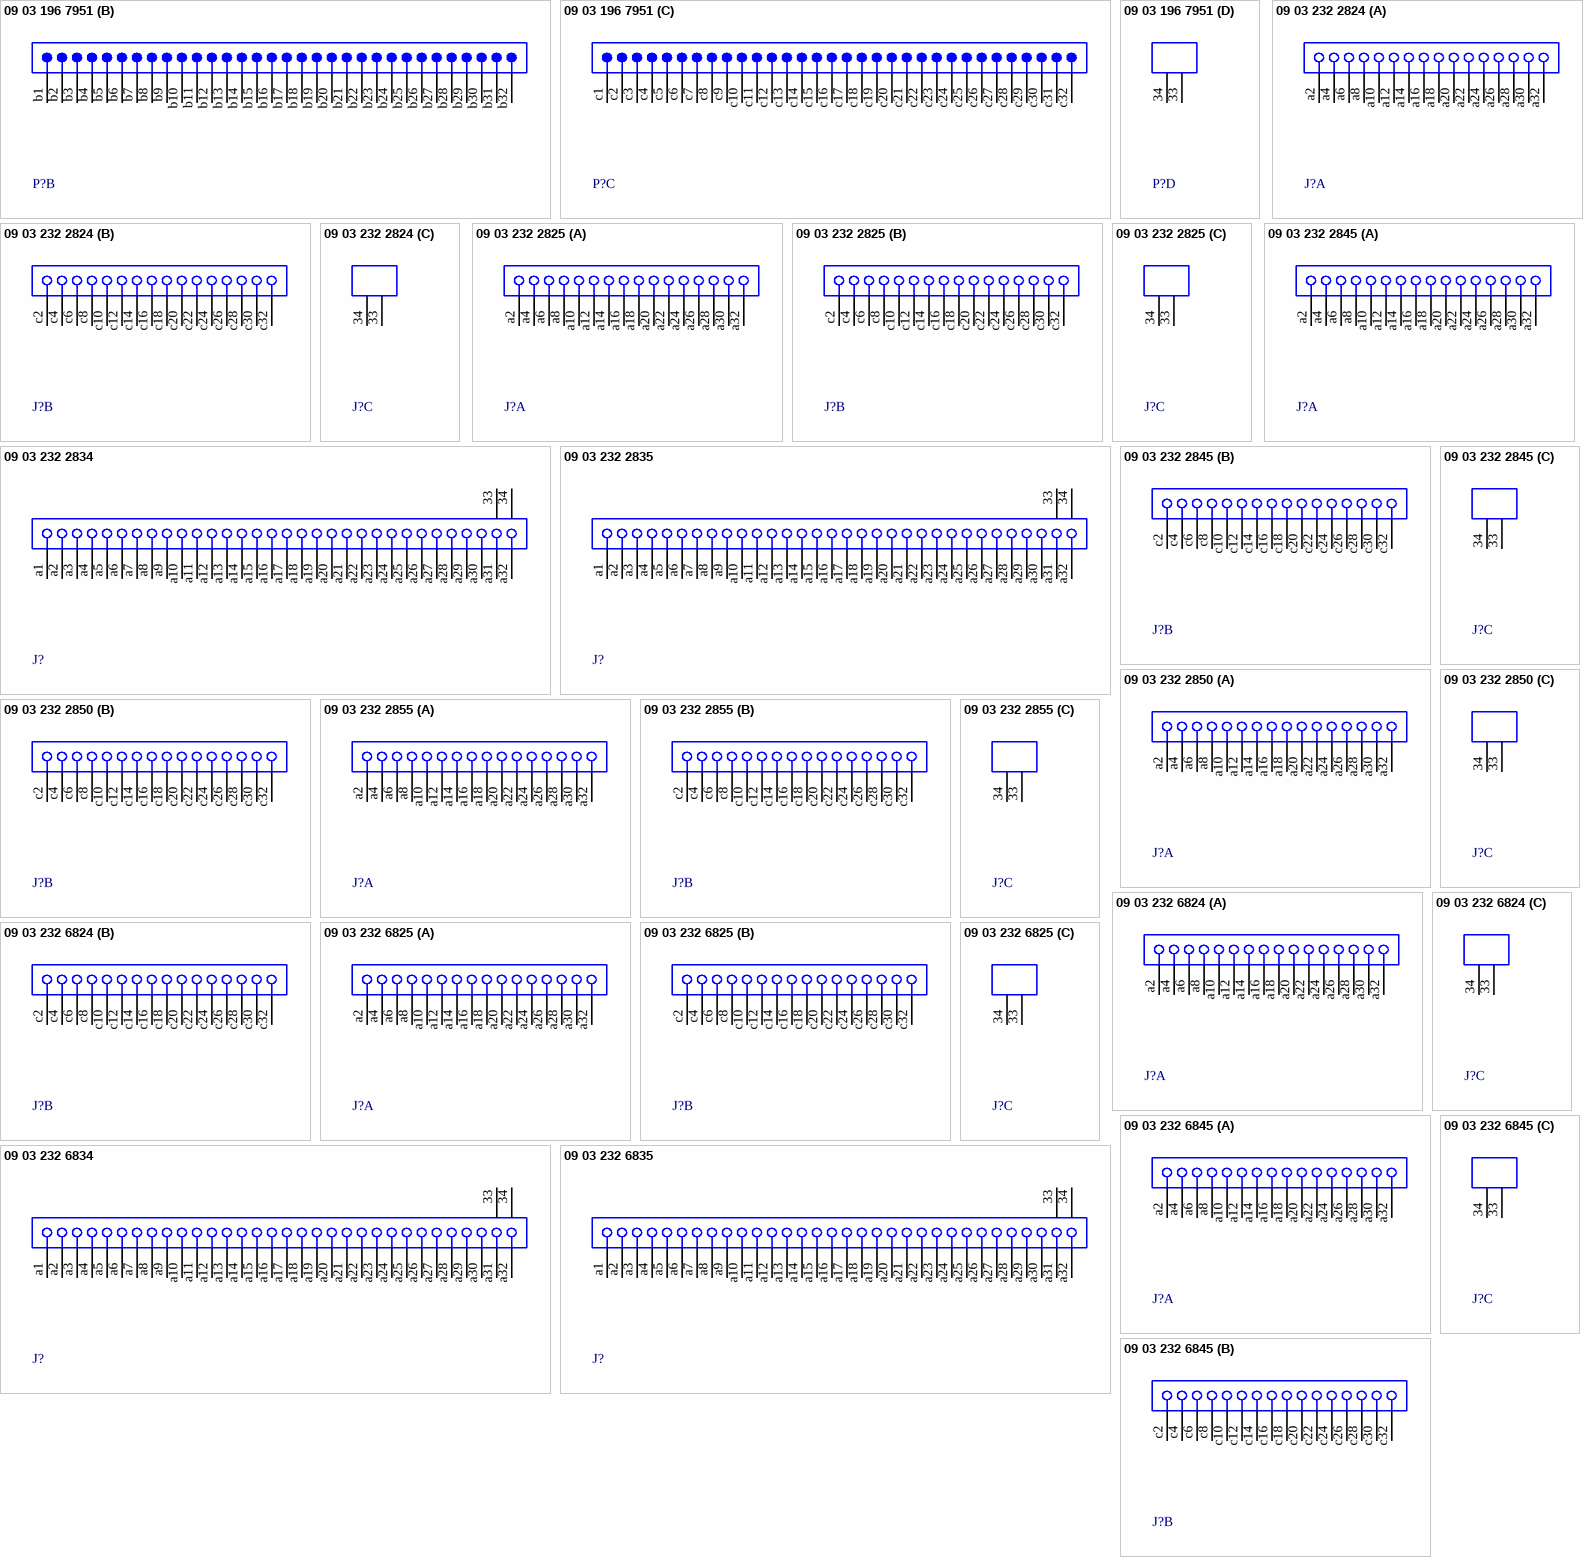
[diagram p4: symbols 09 03 196 7951 to 09 03 232 6845]

## 09 03 196 7951
designator P?
Eurocard DIN 41612, Type C, 94+2 Position, Rows a+b+c, Performance level 3, Male, Lead 3.0 mm, Pitch 2.54 mm; Note: Two leading contacts at positions a1 & a32.; DrillSize: Corresponds to nominal value.; Published: 6-Oct-2005; DatasheetDocument: 02-Jun-2003; PackageDocument: 15-Jun-2000; PackageReference: 0903196x951; Publisher: Altium Limited; ComponentLink1Description: Manufacturer Link; ComponentLink1URL: http://www.harting.com/; ComponentLink2Description: Packaging Specification; ComponentLink2URL: http://www.harkis.harting.com/_gds/pdf/TB_0903196x951_BL01_R27480.pdf
footprint 0903196x951 (Connector; DIN 41612, Type C, Thru-Hole; Rows a+b+c, 96 Position; Right Angle)
signal-integrity model DIN 41612
part A pins: a1, a2, a3, a4, a5, a6, a7, a8, a9, a10, a11, a12, a13, a14, a15, a16, a17, a18, a19, a20, a21, a22, a23, a24, a25, a26, a27, a28, a29, a30, a31, a32
part B pins: b1, b2, b3, b4, b5, b6, b7, b8, b9, b10, b11, b12, b13, b14, b15, b16, b17, b18, b19, b20, b21, b22, b23, b24, b25, b26, b27, b28, b29, b30, b31, b32
part C pins: c1, c2, c3, c4, c5, c6, c7, c8, c9, c10, c11, c12, c13, c14, c15, c16, c17, c18, c19, c20, c21, c22, c23, c24, c25, c26, c27, c28, c29, c30, c31, c32
part D pins: 33 MH1 "Mounting Fixture", 34 MH2 "Mounting Fixture"

## 09 03 232 2824
designator J?
Eurocard DIN 41612, Type C, 32 Position, Rows a+c, Performance level 1, Female, Lead 2.9 mm, Pitch 2.54 mm; DrillSize: Corresponds to nominal value.; Published: 6-Oct-2005; DatasheetDocument: 02-Jun-2003; PackageDocument: 15-Feb-2002; PackageReference: 0903232x824; Publisher: Altium Limited; ComponentLink1Description: Manufacturer Link; ComponentLink1URL: http://www.harting.com/; ComponentLink2Description: Packaging Specification; ComponentLink2URL: http://www.harkis.harting.com/_gds/pdf/TB_0903232x824_BL01_R30814.pdf
footprint 0903232x824 (Connector; DIN 41612, Type C, Thru-Hole; Rows a+c, 32 Position; Vertical)
signal-integrity model DIN 41612
part A pins: a2, a4, a6, a8, a10, a12, a14, a16, a18, a20, a22, a24, a26, a28, a30, a32
part B pins: c2, c4, c6, c8, c10, c12, c14, c16, c18, c20, c22, c24, c26, c28, c30, c32
part C pins: 33 MH1 "Mounting Fixture", 34 MH2 "Mounting Fixture"

## 09 03 232 2825
designator J?
Eurocard DIN 41612, Type C, 32 Position, Rows a+c, Performance level 1, Female, Lead 4.5 mm, Pitch 5.08 mm; DrillSize: Corresponds to nominal value.; Published: 6-Oct-2005; DatasheetDocument: 02-Jun-2003; PackageDocument: 15-Feb-2002; PackageReference: 0903232x825; Publisher: Altium Limited; ComponentLink1Description: Manufacturer Link; ComponentLink1URL: http://www.harting.com/; ComponentLink2Description: Packaging Specification; ComponentLink2URL: http://www.harkis.harting.com/_gds/pdf/TB_0903232x825_BL01_R30814.pdf
footprint 0903232x825 (Connector; DIN 41612, Type C, Thru-Hole; Rows a+c, 32 Position; Vertical)
signal-integrity model DIN 41612
part A pins: a2, a4, a6, a8, a10, a12, a14, a16, a18, a20, a22, a24, a26, a28, a30, a32
part B pins: c2, c4, c6, c8, c10, c12, c14, c16, c18, c20, c22, c24, c26, c28, c30, c32
part C pins: 33 MH1 "Mounting Fixture", 34 MH2 "Mounting Fixture"

## 09 03 232 2834
designator J?
Eurocard DIN 41612, Type C, 32 Position, Row a, Performance level 1, Female, Lead 2.9 mm, Pitch 2.54 mm; DrillSize: Corresponds to nominal value.; Published: 6-Oct-2005; DatasheetDocument: 02-Jun-2003; PackageDocument: 15-Feb-2002; PackageReference: 0903232x834; Publisher: Altium Limited; ComponentLink1Description: Manufacturer Link; ComponentLink1URL: http://www.harting.com/; ComponentLink2Description: Packaging Specification; ComponentLink2URL: http://www.harkis.harting.com/_gds/pdf/TB_0903232x834_BL01_R30814.pdf
footprint 0903232x834 (Connector; DIN 41612, Type C, Thru-Hole; Row a, 32 Position; Vertical)
signal-integrity model DIN 41612
pins: 33 MH1 "Mounting Fixture", 34 MH2 "Mounting Fixture", a1, a2, a3, a4, a5, a6, a7, a8, a9, a10, a11, a12, a13, a14, a15, a16, a17, a18, a19, a20, a21, a22, a23, a24, a25, a26, a27, a28, a29, a30, a31, a32

## 09 03 232 2835
designator J?
Eurocard DIN 41612, Type C, 32 Position, Row a, Performance level 1, Female, Lead 4.5 mm, Pitch 2.54 mm; DrillSize: Corresponds to nominal value.; Published: 6-Oct-2005; DatasheetDocument: 02-Jun-2003; PackageDocument: 15-Feb-2002; PackageReference: 0903232x835; Publisher: Altium Limited; ComponentLink1Description: Manufacturer Link; ComponentLink1URL: http://www.harting.com/; ComponentLink2Description: Packaging Specification; ComponentLink2URL: http://www.harkis.harting.com/_gds/pdf/TB_0903232x835_BL01_R30814.pdf
footprint 0903232x835 (Connector; DIN 41612, Type C, Thru-Hole; Row a, 32 Position; Vertical)
signal-integrity model DIN 41612
pins: 33 MH1 "Mounting Fixture", 34 MH2 "Mounting Fixture", a1, a2, a3, a4, a5, a6, a7, a8, a9, a10, a11, a12, a13, a14, a15, a16, a17, a18, a19, a20, a21, a22, a23, a24, a25, a26, a27, a28, a29, a30, a31, a32

## 09 03 232 2845
designator J?
Eurocard DIN 41612, Type C, 32 Position, Rows a+c, Performance level 1, Female, Lead 4.5 mm, Pitch 5.08 mm; Note: Kinked pins for connecting the connector onto the PCB.; DrillSize: Corresponds to nominal value.; Published: 6-Oct-2005; DatasheetDocument: 02-Jun-2003; PackageDocument: 15-Feb-2002; PackageReference: 0903232x845; Publisher: Altium Limited; ComponentLink1Description: Manufacturer Link; ComponentLink1URL: http://www.harting.com/; ComponentLink2Description: Packaging Specification; ComponentLink2URL: http://www.harkis.harting.com/_gds/pdf/TB_0903232x845_BL01_R30814.pdf
footprint 0903232x845 (Connector; DIN 41612, Type C, Thru-Hole; Rows a+c, 32 Position; Vertical)
signal-integrity model DIN 41612
part A pins: a2, a4, a6, a8, a10, a12, a14, a16, a18, a20, a22, a24, a26, a28, a30, a32
part B pins: c2, c4, c6, c8, c10, c12, c14, c16, c18, c20, c22, c24, c26, c28, c30, c32
part C pins: 33 MH1 "Mounting Fixture", 34 MH2 "Mounting Fixture"

## 09 03 232 2850
designator J?
Eurocard DIN 41612, Type C, 32 Position, Rows a+c, Performance level 1, Female, Lead 4.5 mm, Pitch 5.08 mm; DrillSize: Corresponds to nominal value.; Published: 6-Oct-2005; DatasheetDocument: 03-Jun-2003; PackageDocument: 18-Feb-2002; PackageReference: 0903232x850; Publisher: Altium Limited; ComponentLink1Description: Manufacturer Link; ComponentLink1URL: http://www.harting.com/; ComponentLink2Description: Packaging Specification; ComponentLink2URL: http://www.harkis.harting.com/_gds/pdf/TB_0903232x850_BL01_R30814.pdf
footprint 0903232x850 (Connector; DIN 41612, Type C, Thru-Hole; Rows a+c, 32 Position; Vertical)
signal-integrity model DIN 41612
part A pins: a2, a4, a6, a8, a10, a12, a14, a16, a18, a20, a22, a24, a26, a28, a30, a32
part B pins: c2, c4, c6, c8, c10, c12, c14, c16, c18, c20, c22, c24, c26, c28, c30, c32
part C pins: 33 MH1 "Mounting Fixture", 34 MH2 "Mounting Fixture"

## 09 03 232 2855
designator J?
Eurocard DIN 41612, Type C, 32 Position, Rows a+c, Performance level 1, Female, Lead 2.9 mm, Pitch 5.08 mm; Note: Kinked pins for connecting the connector onto the PCB.; DrillSize: Corresponds to nominal value.; Published: 6-Oct-2005; DatasheetDocument: 02-Jun-2003; PackageDocument: 18-Feb-2002; PackageReference: 0903232x855; Publisher: Altium Limited; ComponentLink1Description: Manufacturer Link; ComponentLink1URL: http://www.harting.com/; ComponentLink2Description: Packaging Specification; ComponentLink2URL: http://www.harkis.harting.com/_gds/pdf/TB_0903232x855_BL01_R30814.pdf
footprint 0903232x855 (Connector; DIN 41612, Type C, Thru-Hole; Rows a+c, 32 Position; Vertical)
signal-integrity model DIN 41612
part A pins: a2, a4, a6, a8, a10, a12, a14, a16, a18, a20, a22, a24, a26, a28, a30, a32
part B pins: c2, c4, c6, c8, c10, c12, c14, c16, c18, c20, c22, c24, c26, c28, c30, c32
part C pins: 33 MH1 "Mounting Fixture", 34 MH2 "Mounting Fixture"

## 09 03 232 6824
designator J?
Eurocard DIN 41612, Type C, 32 Position, Rows a+c, Performance level 2, Female, Lead 2.9 mm, Pitch 2.54 mm; DrillSize: Corresponds to nominal value.; Published: 6-Oct-2005; DatasheetDocument: 02-Jun-2003; PackageDocument: 15-Feb-2002; PackageReference: 0903232x824; Publisher: Altium Limited; ComponentLink1Description: Manufacturer Link; ComponentLink1URL: http://www.harting.com/; ComponentLink2Description: Packaging Specification; ComponentLink2URL: http://www.harkis.harting.com/_gds/pdf/TB_0903232x824_BL01_R30814.pdf
footprint 0903232x824 (Connector; DIN 41612, Type C, Thru-Hole; Rows a+c, 32 Position; Vertical)
signal-integrity model DIN 41612
part A pins: a2, a4, a6, a8, a10, a12, a14, a16, a18, a20, a22, a24, a26, a28, a30, a32
part B pins: c2, c4, c6, c8, c10, c12, c14, c16, c18, c20, c22, c24, c26, c28, c30, c32
part C pins: 33 MH1 "Mounting Fixture", 34 MH2 "Mounting Fixture"

## 09 03 232 6825
designator J?
Eurocard DIN 41612, Type C, 32 Position, Rows a+c, Performance level 2, Female, Lead 4.5 mm, Pitch 5.08 mm; DrillSize: Corresponds to nominal value.; Published: 6-Oct-2005; DatasheetDocument: 02-Jun-2003; PackageDocument: 15-Feb-2002; PackageReference: 0903232x825; Publisher: Altium Limited; ComponentLink1Description: Manufacturer Link; ComponentLink1URL: http://www.harting.com/; ComponentLink2Description: Packaging Specification; ComponentLink2URL: http://www.harkis.harting.com/_gds/pdf/TB_0903232x825_BL01_R30814.pdf
footprint 0903232x825 (Connector; DIN 41612, Type C, Thru-Hole; Rows a+c, 32 Position; Vertical)
signal-integrity model DIN 41612
part A pins: a2, a4, a6, a8, a10, a12, a14, a16, a18, a20, a22, a24, a26, a28, a30, a32
part B pins: c2, c4, c6, c8, c10, c12, c14, c16, c18, c20, c22, c24, c26, c28, c30, c32
part C pins: 33 MH1 "Mounting Fixture", 34 MH2 "Mounting Fixture"

## 09 03 232 6834
designator J?
Eurocard DIN 41612, Type C, 32 Position, Row a, Performance level 2, Female, Lead 2.9 mm, Pitch 2.54 mm; DrillSize: Corresponds to nominal value.; Published: 6-Oct-2005; DatasheetDocument: 02-Jun-2003; PackageDocument: 15-Feb-2002; PackageReference: 0903232x834; Publisher: Altium Limited; ComponentLink1Description: Manufacturer Link; ComponentLink1URL: http://www.harting.com/; ComponentLink2Description: Packaging Specification; ComponentLink2URL: http://www.harkis.harting.com/_gds/pdf/TB_0903232x834_BL01_R30814.pdf
footprint 0903232x834 (Connector; DIN 41612, Type C, Thru-Hole; Row a, 32 Position; Vertical)
signal-integrity model DIN 41612
pins: 33 MH1 "Mounting Fixture", 34 MH2 "Mounting Fixture", a1, a2, a3, a4, a5, a6, a7, a8, a9, a10, a11, a12, a13, a14, a15, a16, a17, a18, a19, a20, a21, a22, a23, a24, a25, a26, a27, a28, a29, a30, a31, a32

## 09 03 232 6835
designator J?
Eurocard DIN 41612, Type C, 32 Position, Row a, Performance level 2, Female, Lead 4.5 mm, Pitch 2.54 mm; DrillSize: Corresponds to nominal value.; Published: 6-Oct-2005; DatasheetDocument: 02-Jun-2003; PackageDocument: 15-Feb-2002; PackageReference: 0903232x835; Publisher: Altium Limited; ComponentLink1Description: Manufacturer Link; ComponentLink1URL: http://www.harting.com/; ComponentLink2Description: Packaging Specification; ComponentLink2URL: http://www.harkis.harting.com/_gds/pdf/TB_0903232x835_BL01_R30814.pdf
footprint 0903232x835 (Connector; DIN 41612, Type C, Thru-Hole; Row a, 32 Position; Vertical)
signal-integrity model DIN 41612
pins: 33 MH1 "Mounting Fixture", 34 MH2 "Mounting Fixture", a1, a2, a3, a4, a5, a6, a7, a8, a9, a10, a11, a12, a13, a14, a15, a16, a17, a18, a19, a20, a21, a22, a23, a24, a25, a26, a27, a28, a29, a30, a31, a32

## 09 03 232 6845
designator J?
Eurocard DIN 41612, Type C, 32 Position, Rows a+c, Performance level 2, Female, Lead 4.5 mm, Pitch 5.08 mm; Note: Kinked pins for connecting the connector onto the PCB.; DrillSize: Corresponds to nominal value.; Published: 6-Oct-2005; DatasheetDocument: 02-Jun-2003; PackageDocument: 15-Feb-2002; PackageReference: 0903232x845; Publisher: Altium Limited; ComponentLink1Description: Manufacturer Link; ComponentLink1URL: http://www.harting.com/; ComponentLink2Description: Packaging Specification; ComponentLink2URL: http://www.harkis.harting.com/_gds/pdf/TB_0903232x845_BL01_R30814.pdf
footprint 0903232x845 (Connector; DIN 41612, Type C, Thru-Hole; Rows a+c, 32 Position; Vertical)
signal-integrity model DIN 41612
part A pins: a2, a4, a6, a8, a10, a12, a14, a16, a18, a20, a22, a24, a26, a28, a30, a32
part B pins: c2, c4, c6, c8, c10, c12, c14, c16, c18, c20, c22, c24, c26, c28, c30, c32
part C pins: 33 MH1 "Mounting Fixture", 34 MH2 "Mounting Fixture"

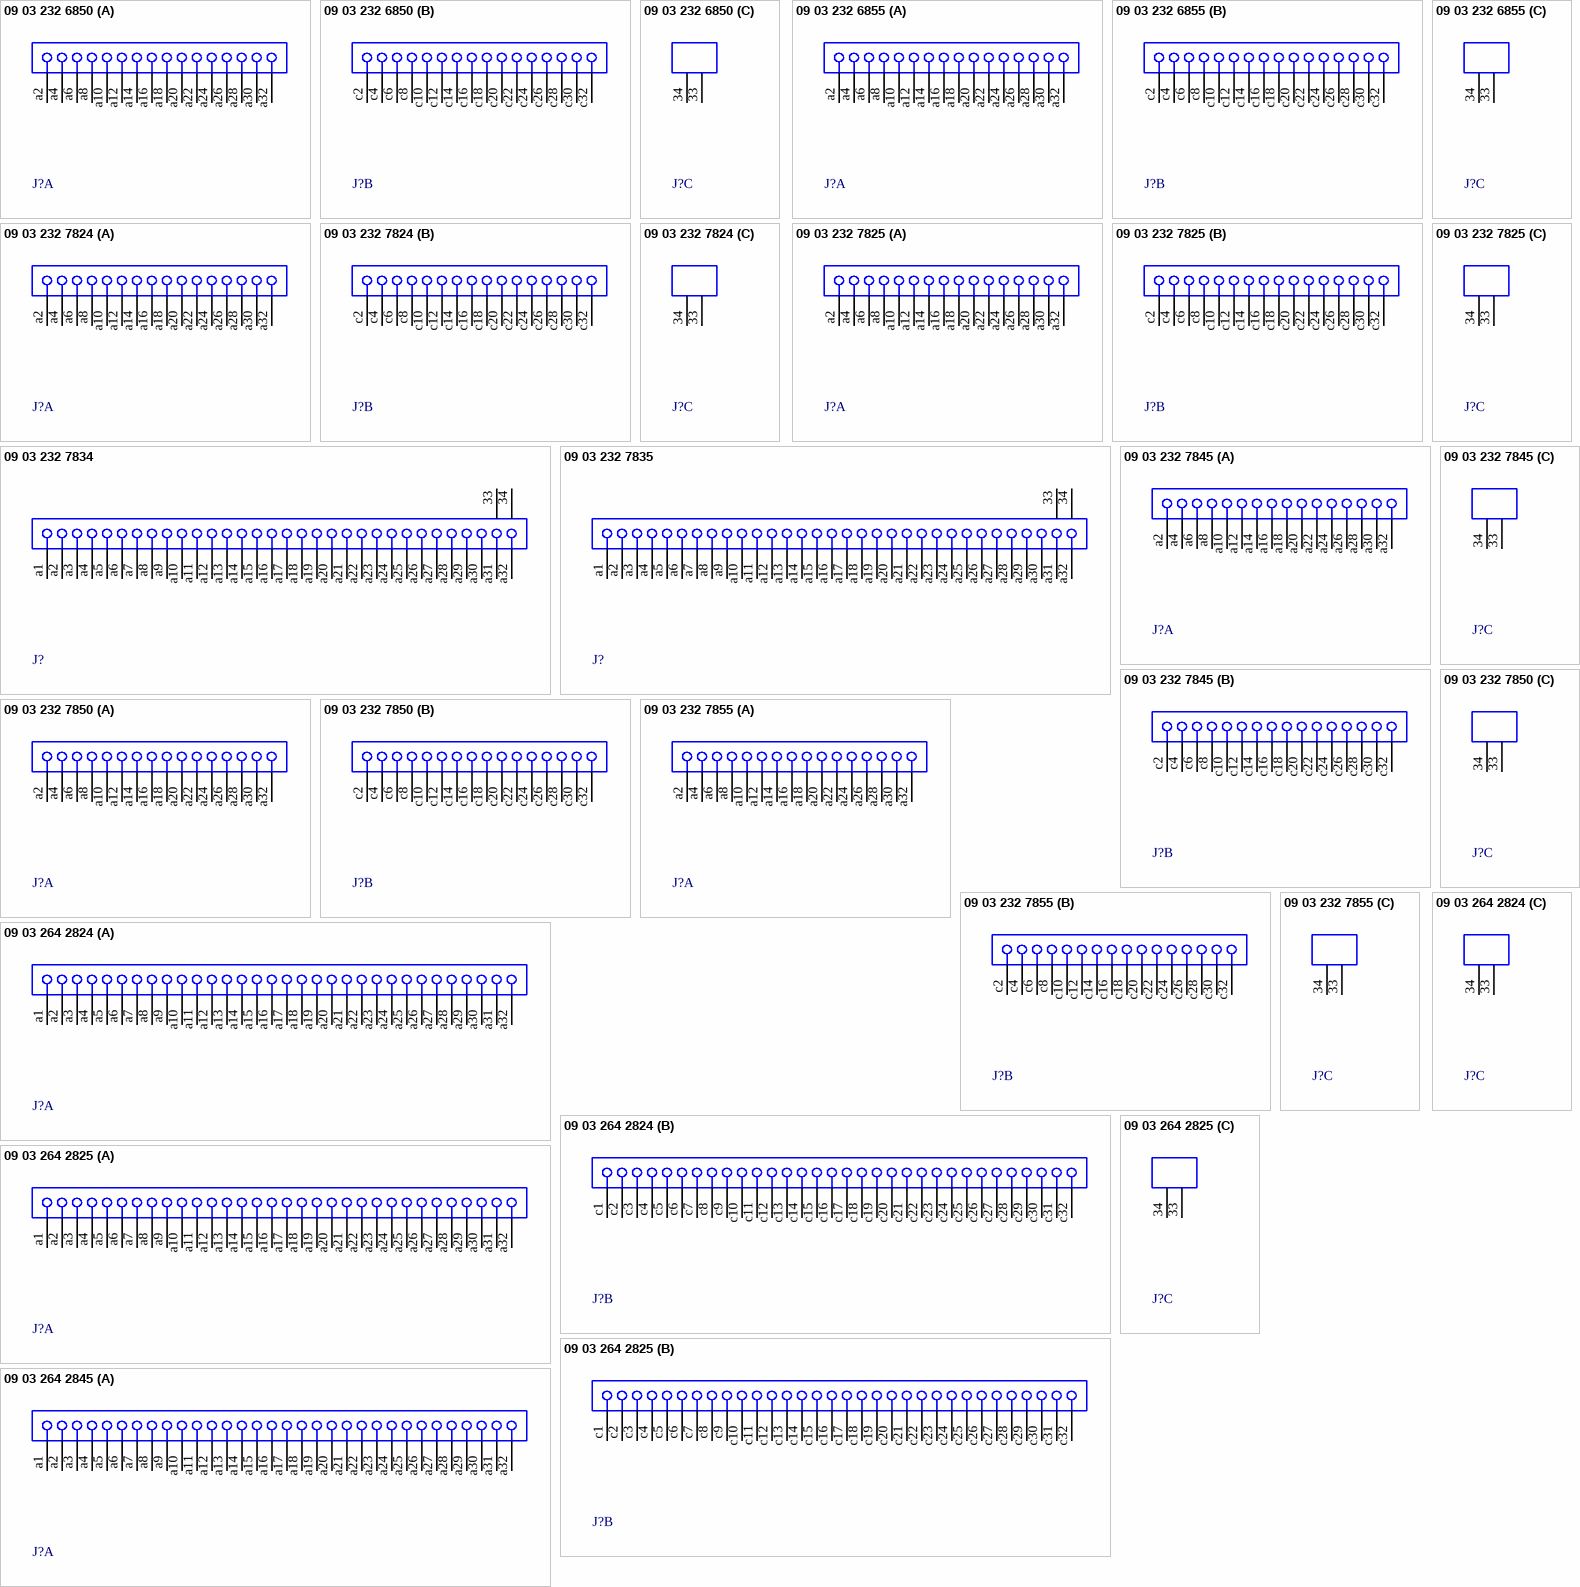
[diagram p5: symbols 09 03 232 6850 to 09 03 264 2845]

## 09 03 232 6850
designator J?
Eurocard DIN 41612, Type C, 32 Position, Rows a+c, Performance level 2, Female, Lead 4.5 mm, Pitch 5.08 mm; DrillSize: Corresponds to nominal value.; Published: 6-Oct-2005; DatasheetDocument: 03-Jun-2003; PackageDocument: 18-Feb-2002; PackageReference: 0903232x850; Publisher: Altium Limited; ComponentLink1Description: Manufacturer Link; ComponentLink1URL: http://www.harting.com/; ComponentLink2Description: Packaging Specification; ComponentLink2URL: http://www.harkis.harting.com/_gds/pdf/TB_0903232x850_BL01_R30814.pdf
footprint 0903232x850 (Connector; DIN 41612, Type C, Thru-Hole; Rows a+c, 32 Position; Vertical)
signal-integrity model DIN 41612
part A pins: a2, a4, a6, a8, a10, a12, a14, a16, a18, a20, a22, a24, a26, a28, a30, a32
part B pins: c2, c4, c6, c8, c10, c12, c14, c16, c18, c20, c22, c24, c26, c28, c30, c32
part C pins: 33 MH1 "Mounting Fixture", 34 MH2 "Mounting Fixture"

## 09 03 232 6855
designator J?
Eurocard DIN 41612, Type C, 32 Position, Rows a+c, Performance level 2, Female, Lead 2.9 mm, Pitch 5.08 mm; Note: Kinked pins for connecting the connector onto the PCB.; DrillSize: Corresponds to nominal value.; Published: 6-Oct-2005; DatasheetDocument: 02-Jun-2003; PackageDocument: 18-Feb-2002; PackageReference: 0903232x855; Publisher: Altium Limited; ComponentLink1Description: Manufacturer Link; ComponentLink1URL: http://www.harting.com/; ComponentLink2Description: Packaging Specification; ComponentLink2URL: http://www.harkis.harting.com/_gds/pdf/TB_0903232x855_BL01_R30814.pdf
footprint 0903232x855 (Connector; DIN 41612, Type C, Thru-Hole; Rows a+c, 32 Position; Vertical)
signal-integrity model DIN 41612
part A pins: a2, a4, a6, a8, a10, a12, a14, a16, a18, a20, a22, a24, a26, a28, a30, a32
part B pins: c2, c4, c6, c8, c10, c12, c14, c16, c18, c20, c22, c24, c26, c28, c30, c32
part C pins: 33 MH1 "Mounting Fixture", 34 MH2 "Mounting Fixture"

## 09 03 232 7824
designator J?
Eurocard DIN 41612, Type C, 32 Position, Rows a+c, Performance level 3, Female, Lead 2.9 mm, Pitch 2.54 mm; DrillSize: Corresponds to nominal value.; Published: 6-Oct-2005; DatasheetDocument: 02-Jun-2003; PackageDocument: 15-Feb-2002; PackageReference: 0903232x824; Publisher: Altium Limited; ComponentLink1Description: Manufacturer Link; ComponentLink1URL: http://www.harting.com/; ComponentLink2Description: Packaging Specification; ComponentLink2URL: http://www.harkis.harting.com/_gds/pdf/TB_0903232x824_BL01_R30814.pdf
footprint 0903232x824 (Connector; DIN 41612, Type C, Thru-Hole; Rows a+c, 32 Position; Vertical)
signal-integrity model DIN 41612
part A pins: a2, a4, a6, a8, a10, a12, a14, a16, a18, a20, a22, a24, a26, a28, a30, a32
part B pins: c2, c4, c6, c8, c10, c12, c14, c16, c18, c20, c22, c24, c26, c28, c30, c32
part C pins: 33 MH1 "Mounting Fixture", 34 MH2 "Mounting Fixture"

## 09 03 232 7825
designator J?
Eurocard DIN 41612, Type C, 32 Position, Rows a+c, Performance level 3, Female, Lead 4.5 mm, Pitch 5.08 mm; DrillSize: Corresponds to nominal value.; Published: 6-Oct-2005; DatasheetDocument: 02-Jun-2003; PackageDocument: 15-Feb-2002; PackageReference: 0903232x825; Publisher: Altium Limited; ComponentLink1Description: Manufacturer Link; ComponentLink1URL: http://www.harting.com/; ComponentLink2Description: Packaging Specification; ComponentLink2URL: http://www.harkis.harting.com/_gds/pdf/TB_0903232x825_BL01_R30814.pdf
footprint 0903232x825 (Connector; DIN 41612, Type C, Thru-Hole; Rows a+c, 32 Position; Vertical)
signal-integrity model DIN 41612
part A pins: a2, a4, a6, a8, a10, a12, a14, a16, a18, a20, a22, a24, a26, a28, a30, a32
part B pins: c2, c4, c6, c8, c10, c12, c14, c16, c18, c20, c22, c24, c26, c28, c30, c32
part C pins: 33 MH1 "Mounting Fixture", 34 MH2 "Mounting Fixture"

## 09 03 232 7834
designator J?
Eurocard DIN 41612, Type C, 32 Position, Row a, Performance level 3, Female, Lead 2.9 mm, Pitch 2.54 mm; DrillSize: Corresponds to nominal value.; Published: 6-Oct-2005; DatasheetDocument: 02-Jun-2003; PackageDocument: 15-Feb-2002; PackageReference: 0903232x834; Publisher: Altium Limited; ComponentLink1Description: Manufacturer Link; ComponentLink1URL: http://www.harting.com/; ComponentLink2Description: Packaging Specification; ComponentLink2URL: http://www.harkis.harting.com/_gds/pdf/TB_0903232x834_BL01_R30814.pdf
footprint 0903232x834 (Connector; DIN 41612, Type C, Thru-Hole; Row a, 32 Position; Vertical)
signal-integrity model DIN 41612
pins: 33 MH1 "Mounting Fixture", 34 MH2 "Mounting Fixture", a1, a2, a3, a4, a5, a6, a7, a8, a9, a10, a11, a12, a13, a14, a15, a16, a17, a18, a19, a20, a21, a22, a23, a24, a25, a26, a27, a28, a29, a30, a31, a32

## 09 03 232 7835
designator J?
Eurocard DIN 41612, Type C, 32 Position, Row a, Performance level 3, Female, Lead 4.5 mm, Pitch 2.54 mm; DrillSize: Corresponds to nominal value.; Published: 6-Oct-2005; DatasheetDocument: 02-Jun-2003; PackageDocument: 15-Feb-2002; PackageReference: 0903232x835; Publisher: Altium Limited; ComponentLink1Description: Manufacturer Link; ComponentLink1URL: http://www.harting.com/; ComponentLink2Description: Packaging Specification; ComponentLink2URL: http://www.harkis.harting.com/_gds/pdf/TB_0903232x835_BL01_R30814.pdf
footprint 0903232x835 (Connector; DIN 41612, Type C, Thru-Hole; Row a, 32 Position; Vertical)
signal-integrity model DIN 41612
pins: 33 MH1 "Mounting Fixture", 34 MH2 "Mounting Fixture", a1, a2, a3, a4, a5, a6, a7, a8, a9, a10, a11, a12, a13, a14, a15, a16, a17, a18, a19, a20, a21, a22, a23, a24, a25, a26, a27, a28, a29, a30, a31, a32

## 09 03 232 7845
designator J?
Eurocard DIN 41612, Type C, 32 Position, Rows a+c, Performance level 3, Female, Lead 4.5 mm, Pitch 5.08 mm; Note: Kinked pins for connecting the connector onto the PCB.; DrillSize: Corresponds to nominal value.; Published: 6-Oct-2005; DatasheetDocument: 02-Jun-2003; PackageDocument: 15-Feb-2002; PackageReference: 0903232x845; Publisher: Altium Limited; ComponentLink1Description: Manufacturer Link; ComponentLink1URL: http://www.harting.com/; ComponentLink2Description: Packaging Specification; ComponentLink2URL: http://www.harkis.harting.com/_gds/pdf/TB_0903232x845_BL01_R30814.pdf
footprint 0903232x845 (Connector; DIN 41612, Type C, Thru-Hole; Rows a+c, 32 Position; Vertical)
signal-integrity model DIN 41612
part A pins: a2, a4, a6, a8, a10, a12, a14, a16, a18, a20, a22, a24, a26, a28, a30, a32
part B pins: c2, c4, c6, c8, c10, c12, c14, c16, c18, c20, c22, c24, c26, c28, c30, c32
part C pins: 33 MH1 "Mounting Fixture", 34 MH2 "Mounting Fixture"

## 09 03 232 7850
designator J?
Eurocard DIN 41612, Type C, 32 Position, Rows a+c, Performance level 3, Female, Lead 4.5 mm, Pitch 5.08 mm; DrillSize: Corresponds to nominal value.; Published: 6-Oct-2005; DatasheetDocument: 03-Jun-2003; PackageDocument: 18-Feb-2002; PackageReference: 0903232x850; Publisher: Altium Limited; ComponentLink1Description: Manufacturer Link; ComponentLink1URL: http://www.harting.com/; ComponentLink2Description: Packaging Specification; ComponentLink2URL: http://www.harkis.harting.com/_gds/pdf/TB_0903232x850_BL01_R30814.pdf
footprint 0903232x850 (Connector; DIN 41612, Type C, Thru-Hole; Rows a+c, 32 Position; Vertical)
signal-integrity model DIN 41612
part A pins: a2, a4, a6, a8, a10, a12, a14, a16, a18, a20, a22, a24, a26, a28, a30, a32
part B pins: c2, c4, c6, c8, c10, c12, c14, c16, c18, c20, c22, c24, c26, c28, c30, c32
part C pins: 33 MH1 "Mounting Fixture", 34 MH2 "Mounting Fixture"

## 09 03 232 7855
designator J?
Eurocard DIN 41612, Type C, 32 Position, Rows a+c, Performance level 3, Female, Lead 2.9 mm, Pitch 5.08 mm; Note: Kinked pins for connecting the connector onto the PCB.; DrillSize: Corresponds to nominal value.; Published: 6-Oct-2005; DatasheetDocument: 02-Jun-2003; PackageDocument: 18-Feb-2002; PackageReference: 0903232x855; Publisher: Altium Limited; ComponentLink1Description: Manufacturer Link; ComponentLink1URL: http://www.harting.com/; ComponentLink2Description: Packaging Specification; ComponentLink2URL: http://www.harkis.harting.com/_gds/pdf/TB_0903232x855_BL01_R30814.pdf
footprint 0903232x855 (Connector; DIN 41612, Type C, Thru-Hole; Rows a+c, 32 Position; Vertical)
signal-integrity model DIN 41612
part A pins: a2, a4, a6, a8, a10, a12, a14, a16, a18, a20, a22, a24, a26, a28, a30, a32
part B pins: c2, c4, c6, c8, c10, c12, c14, c16, c18, c20, c22, c24, c26, c28, c30, c32
part C pins: 33 MH1 "Mounting Fixture", 34 MH2 "Mounting Fixture"

## 09 03 264 2824
designator J?
Eurocard DIN 41612, Type C, 64 Position, Rows a+c, Performance level 1, Female, Lead 2.9 mm, Pitch 2.54 mm; DrillSize: Corresponds to nominal value.; Published: 6-Oct-2005; DatasheetDocument: 02-Jun-2003; PackageDocument: 19-Feb-2002; PackageReference: 0903264x824; Publisher: Altium Limited; ComponentLink1Description: Manufacturer Link; ComponentLink1URL: http://www.harting.com/; ComponentLink2Description: Packaging Specification; ComponentLink2URL: http://www.harkis.harting.com/_gds/pdf/TB_0903264x824_BL01_R30815.pdf
footprint 0903264x824 (Connector; DIN 41612, Type C, Thru-Hole; Rows a+c, 64 Position; Vertical)
signal-integrity model DIN 41612
part A pins: a1, a2, a3, a4, a5, a6, a7, a8, a9, a10, a11, a12, a13, a14, a15, a16, a17, a18, a19, a20, a21, a22, a23, a24, a25, a26, a27, a28, a29, a30, a31, a32
part B pins: c1, c2, c3, c4, c5, c6, c7, c8, c9, c10, c11, c12, c13, c14, c15, c16, c17, c18, c19, c20, c21, c22, c23, c24, c25, c26, c27, c28, c29, c30, c31, c32
part C pins: 33 MH1 "Mounting Fixture", 34 MH2 "Mounting Fixture"